# Altium schematic symbol library MCU_ST_STM32F0.SchLib: 111 symbols (part 2 of 3)
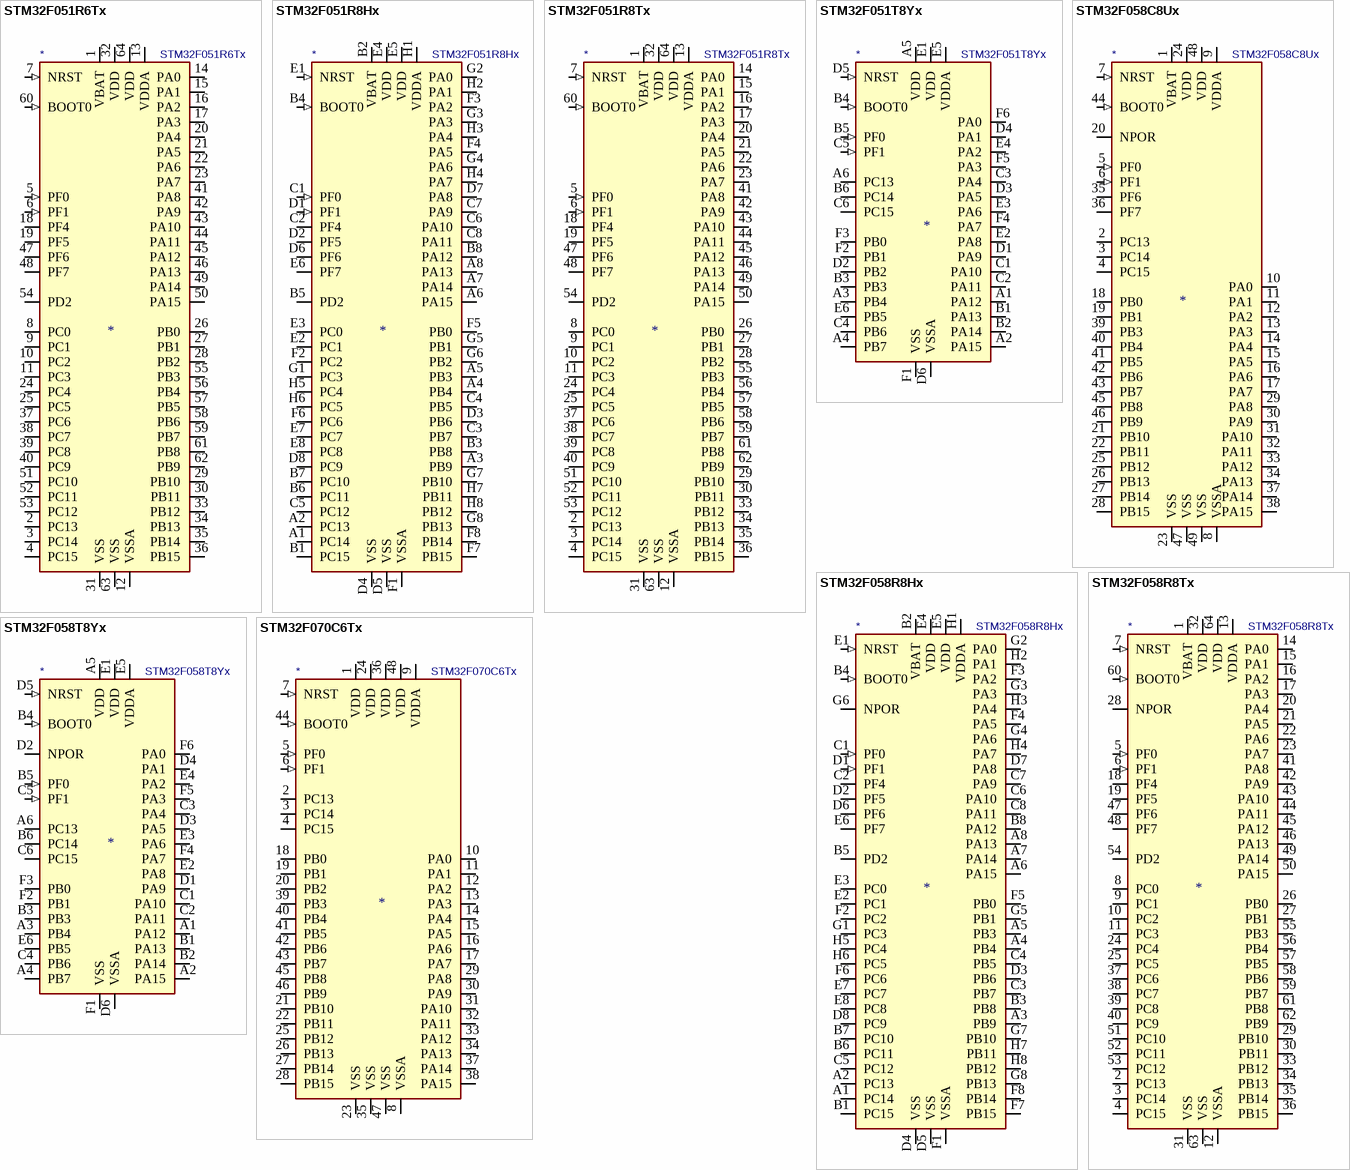
[diagram p10: symbols STM32F051R6Tx to STM32F070C6Tx]

## STM32F051R8Hx
designator *  value STM32F051R8Hx
ki_keywords: ARM Cortex-M0 STM32F0 STM32F0x1; ki_description: ARM Cortex-M0 MCU, 64KB flash, 8KB RAM, 48MHz, 2-3.6V, 55 GPIO, UFBGA-64; ki_fp_filters: UFBGA*5x5mm*Layout8x8*P0.5mm*; Footprint: Package_BGA:UFBGA-64_5x5mm_Layout8x8_P0.5mm; Supplier: http://www.st.com/st-web-ui/static/active/en/resource/technical/document/datasheet/DM00039193.pdf
footprint UFBGA-64_5x5mm_Layout8x8_P0.5mm
pins: A1 PC14 (io), A2 PC13 (io), A3 PB9 (io), A4 PB4 (io), A5 PB3 (io), A6 PA15 (io), A7 PA14 (io), A8 PA13 (io), B1 PC15 (io), B2 VBAT (power), B3 PB8 (io), B4 BOOT0 (in), B5 PD2 (io), B6 PC11 (io), B7 PC10 (io), B8 PA12 (io), C1 PF0 (in), C2 PF4 (io), C3 PB7 (io), C4 PB5 (io), C5 PC12 (io), C6 PA10 (io), C7 PA9 (io), C8 PA11 (io), D1 PF1 (in), D2 PF5 (io), D3 PB6 (io), D4 VSS (power), D5 VSS (power), D6 PF6 (io), D7 PA8 (io), D8 PC9 (io), E1 NRST (in), E2 PC1 (io), E3 PC0 (io), E4 VDD (power), E5 VDD (power), E6 PF7 (io), E7 PC7 (io), E8 PC8 (io), F1 VSSA (power), F2 PC2 (io), F3 PA2 (io), F4 PA5 (io), F5 PB0 (io), F6 PC6 (io), F7 PB15 (io), F8 PB14 (io), G1 PC3 (io), G2 PA0 (io), G3 PA3 (io), G4 PA6 (io), G5 PB1 (io), G6 PB2 (io), G7 PB10 (io), G8 PB13 (io), H1 VDDA (power), H2 PA1 (io), H3 PA4 (io), H4 PA7 (io), H5 PC4 (io), H6 PC5 (io), H7 PB11 (io), H8 PB12 (io)

## STM32F051R8Tx
designator *  value STM32F051R8Tx
ki_keywords: ARM Cortex-M0 STM32F0 STM32F0x1; ki_description: ARM Cortex-M0 MCU, 64KB flash, 8KB RAM, 48MHz, 2-3.6V, 55 GPIO, LQFP-64; ki_fp_filters: LQFP*10x10mm*P0.5mm*; Footprint: Package_QFP:LQFP-64_10x10mm_P0.5mm; Supplier: http://www.st.com/st-web-ui/static/active/en/resource/technical/document/datasheet/DM00039193.pdf
footprint LQFP-64_10x10mm_P0.5mm
pins: 1 VBAT (power), 2 PC13 (io), 3 PC14 (io), 4 PC15 (io), 5 PF0 (in), 6 PF1 (in), 7 NRST (in), 8 PC0 (io), 9 PC1 (io), 10 PC2 (io), 11 PC3 (io), 12 VSSA (power), 13 VDDA (power), 14 PA0 (io), 15 PA1 (io), 16 PA2 (io), 17 PA3 (io), 18 PF4 (io), 19 PF5 (io), 20 PA4 (io), 21 PA5 (io), 22 PA6 (io), 23 PA7 (io), 24 PC4 (io), 25 PC5 (io), 26 PB0 (io), 27 PB1 (io), 28 PB2 (io), 29 PB10 (io), 30 PB11 (io), 31 VSS (power), 32 VDD (power), 33 PB12 (io), 34 PB13 (io), 35 PB14 (io), 36 PB15 (io), 37 PC6 (io), 38 PC7 (io), 39 PC8 (io), 40 PC9 (io), 41 PA8 (io), 42 PA9 (io), 43 PA10 (io), 44 PA11 (io), 45 PA12 (io), 46 PA13 (io), 47 PF6 (io), 48 PF7 (io), 49 PA14 (io), 50 PA15 (io), 51 PC10 (io), 52 PC11 (io), 53 PC12 (io), 54 PD2 (io), 55 PB3 (io), 56 PB4 (io), 57 PB5 (io), 58 PB6 (io), 59 PB7 (io), 60 BOOT0 (in), 61 PB8 (io), 62 PB9 (io), 63 VSS (power), 64 VDD (power)

## STM32F051T8Yx
designator *  value STM32F051T8Yx
ki_keywords: ARM Cortex-M0 STM32F0 STM32F0x1; ki_description: ARM Cortex-M0 MCU, 64KB flash, 8KB RAM, 48MHz, 2-3.6V, 29 GPIO, WLCSP-36; ki_fp_filters: ST_WLCSP*Die440*; Footprint: Package_CSP:ST_WLCSP-36_Die440; Supplier: http://www.st.com/st-web-ui/static/active/en/resource/technical/document/datasheet/DM00039193.pdf
footprint ST_WLCSP-36_Die440
pins: A1 PA12 (io), A2 PA15 (io), A3 PB4 (io), A4 PB7 (io), A5 VDD (power), A6 PC13 (io), B1 PA13 (io), B2 PA14 (io), B3 PB3 (io), B4 BOOT0 (in), B5 PF0 (in), B6 PC14 (io), C1 PA10 (io), C2 PA11 (io), C3 PA4 (io), C4 PB6 (io), C5 PF1 (in), C6 PC15 (io), D1 PA9 (io), D2 PB2 (io), D3 PA5 (io), D4 PA1 (io), D5 NRST (in), D6 VSSA (power), E1 VDD (power), E2 PA8 (io), E3 PA6 (io), E4 PA2 (io), E5 VDDA (power), E6 PB5 (io), F1 VSS (power), F2 PB1 (io), F3 PB0 (io), F4 PA7 (io), F5 PA3 (io), F6 PA0 (io)

## STM32F058C8Ux
designator *  value STM32F058C8Ux
ki_keywords: ARM Cortex-M0 STM32F0 STM32F0x8; ki_description: ARM Cortex-M0 MCU, 64KB flash, 8KB RAM, 48MHz, 1.65-1.95V, 38 GPIO, UFQFPN-48; ki_fp_filters: QFN*1EP*7x7mm*P0.5mm*; Footprint: Package_DFN_QFN:QFN-48-1EP_7x7mm_P0.5mm_EP5.6x5.6mm; Supplier: http://www.st.com/st-web-ui/static/active/en/resource/technical/document/datasheet/DM00059126.pdf
footprint QFN-48-1EP_7x7mm_P0.5mm_EP5.6x5.6mm
pins: 1 VBAT (power), 2 PC13 (io), 3 PC14 (io), 4 PC15 (io), 5 PF0 (in), 6 PF1 (in), 7 NRST (in), 8 VSSA (power), 9 VDDA (power), 10 PA0 (io), 11 PA1 (io), 12 PA2 (io), 13 PA3 (io), 14 PA4 (io), 15 PA5 (io), 16 PA6 (io), 17 PA7 (io), 18 PB0 (io), 19 PB1 (io), 20 NPOR (power), 21 PB10 (io), 22 PB11 (io), 23 VSS (power), 24 VDD (power), 25 PB12 (io), 26 PB13 (io), 27 PB14 (io), 28 PB15 (io), 29 PA8 (io), 30 PA9 (io), 31 PA10 (io), 32 PA11 (io), 33 PA12 (io), 34 PA13 (io), 35 PF6 (io), 36 PF7 (io), 37 PA14 (io), 38 PA15 (io), 39 PB3 (io), 40 PB4 (io), 41 PB5 (io), 42 PB6 (io), 43 PB7 (io), 44 BOOT0 (in), 45 PB8 (io), 46 PB9 (io), 47 VSS (power), 48 VDD (power), 49 VSS (power)

## STM32F058R8Hx
designator *  value STM32F058R8Hx
ki_keywords: ARM Cortex-M0 STM32F0 STM32F0x8; ki_description: ARM Cortex-M0 MCU, 64KB flash, 8KB RAM, 48MHz, 1.65-1.95V, 54 GPIO, UFBGA-64; ki_fp_filters: UFBGA*5x5mm*Layout8x8*P0.5mm*; Footprint: Package_BGA:UFBGA-64_5x5mm_Layout8x8_P0.5mm; Supplier: http://www.st.com/st-web-ui/static/active/en/resource/technical/document/datasheet/DM00059126.pdf
footprint UFBGA-64_5x5mm_Layout8x8_P0.5mm
pins: A1 PC14 (io), A2 PC13 (io), A3 PB9 (io), A4 PB4 (io), A5 PB3 (io), A6 PA15 (io), A7 PA14 (io), A8 PA13 (io), B1 PC15 (io), B2 VBAT (power), B3 PB8 (io), B4 BOOT0 (in), B5 PD2 (io), B6 PC11 (io), B7 PC10 (io), B8 PA12 (io), C1 PF0 (in), C2 PF4 (io), C3 PB7 (io), C4 PB5 (io), C5 PC12 (io), C6 PA10 (io), C7 PA9 (io), C8 PA11 (io), D1 PF1 (in), D2 PF5 (io), D3 PB6 (io), D4 VSS (power), D5 VSS (power), D6 PF6 (io), D7 PA8 (io), D8 PC9 (io), E1 NRST (in), E2 PC1 (io), E3 PC0 (io), E4 VDD (power), E5 VDD (power), E6 PF7 (io), E7 PC7 (io), E8 PC8 (io), F1 VSSA (power), F2 PC2 (io), F3 PA2 (io), F4 PA5 (io), F5 PB0 (io), F6 PC6 (io), F7 PB15 (io), F8 PB14 (io), G1 PC3 (io), G2 PA0 (io), G3 PA3 (io), G4 PA6 (io), G5 PB1 (io), G6 NPOR (power), G7 PB10 (io), G8 PB13 (io), H1 VDDA (power), H2 PA1 (io), H3 PA4 (io), H4 PA7 (io), H5 PC4 (io), H6 PC5 (io), H7 PB11 (io), H8 PB12 (io)

## STM32F058R8Tx
designator *  value STM32F058R8Tx
ki_keywords: ARM Cortex-M0 STM32F0 STM32F0x8; ki_description: ARM Cortex-M0 MCU, 64KB flash, 8KB RAM, 48MHz, 1.65-1.95V, 54 GPIO, LQFP-64; ki_fp_filters: LQFP*10x10mm*P0.5mm*; Footprint: Package_QFP:LQFP-64_10x10mm_P0.5mm; Supplier: http://www.st.com/st-web-ui/static/active/en/resource/technical/document/datasheet/DM00059126.pdf
footprint LQFP-64_10x10mm_P0.5mm
pins: 1 VBAT (power), 2 PC13 (io), 3 PC14 (io), 4 PC15 (io), 5 PF0 (in), 6 PF1 (in), 7 NRST (in), 8 PC0 (io), 9 PC1 (io), 10 PC2 (io), 11 PC3 (io), 12 VSSA (power), 13 VDDA (power), 14 PA0 (io), 15 PA1 (io), 16 PA2 (io), 17 PA3 (io), 18 PF4 (io), 19 PF5 (io), 20 PA4 (io), 21 PA5 (io), 22 PA6 (io), 23 PA7 (io), 24 PC4 (io), 25 PC5 (io), 26 PB0 (io), 27 PB1 (io), 28 NPOR (power), 29 PB10 (io), 30 PB11 (io), 31 VSS (power), 32 VDD (power), 33 PB12 (io), 34 PB13 (io), 35 PB14 (io), 36 PB15 (io), 37 PC6 (io), 38 PC7 (io), 39 PC8 (io), 40 PC9 (io), 41 PA8 (io), 42 PA9 (io), 43 PA10 (io), 44 PA11 (io), 45 PA12 (io), 46 PA13 (io), 47 PF6 (io), 48 PF7 (io), 49 PA14 (io), 50 PA15 (io), 51 PC10 (io), 52 PC11 (io), 53 PC12 (io), 54 PD2 (io), 55 PB3 (io), 56 PB4 (io), 57 PB5 (io), 58 PB6 (io), 59 PB7 (io), 60 BOOT0 (in), 61 PB8 (io), 62 PB9 (io), 63 VSS (power), 64 VDD (power)

## STM32F058T8Yx
designator *  value STM32F058T8Yx
ki_keywords: ARM Cortex-M0 STM32F0 STM32F0x8; ki_description: ARM Cortex-M0 MCU, 64KB flash, 8KB RAM, 48MHz, 1.65-1.95V, 28 GPIO, WLCSP-36; ki_fp_filters: ST_WLCSP*Die440*; Footprint: Package_CSP:ST_WLCSP-36_Die440; Supplier: http://www.st.com/st-web-ui/static/active/en/resource/technical/document/datasheet/DM00059126.pdf
footprint ST_WLCSP-36_Die440
pins: A1 PA12 (io), A2 PA15 (io), A3 PB4 (io), A4 PB7 (io), A5 VDD (power), A6 PC13 (io), B1 PA13 (io), B2 PA14 (io), B3 PB3 (io), B4 BOOT0 (in), B5 PF0 (in), B6 PC14 (io), C1 PA10 (io), C2 PA11 (io), C3 PA4 (io), C4 PB6 (io), C5 PF1 (in), C6 PC15 (io), D1 PA9 (io), D2 NPOR (power), D3 PA5 (io), D4 PA1 (io), D5 NRST (in), D6 VSSA (power), E1 VDD (power), E2 PA8 (io), E3 PA6 (io), E4 PA2 (io), E5 VDDA (power), E6 PB5 (io), F1 VSS (power), F2 PB1 (io), F3 PB0 (io), F4 PA7 (io), F5 PA3 (io), F6 PA0 (io)

## STM32F070C6Tx
designator *  value STM32F070C6Tx
ki_keywords: ARM Cortex-M0 STM32F0 STM32F0x0 Value Line; ki_description: ARM Cortex-M0 MCU, 32KB flash, 6KB RAM, 48MHz, 2.4-3.6V, 37 GPIO, LQFP-48; ki_fp_filters: LQFP*7x7mm*P0.5mm*; Footprint: Package_QFP:LQFP-48_7x7mm_P0.5mm; Supplier: http://www.st.com/st-web-ui/static/active/en/resource/technical/document/datasheet/DM00141386.pdf
footprint LQFP-48_7x7mm_P0.5mm
pins: 1 VDD (power), 2 PC13 (io), 3 PC14 (io), 4 PC15 (io), 5 PF0 (in), 6 PF1 (in), 7 NRST (in), 8 VSSA (power), 9 VDDA (power), 10 PA0 (io), 11 PA1 (io), 12 PA2 (io), 13 PA3 (io), 14 PA4 (io), 15 PA5 (io), 16 PA6 (io), 17 PA7 (io), 18 PB0 (io), 19 PB1 (io), 20 PB2 (io), 21 PB10 (io), 22 PB11 (io), 23 VSS (power), 24 VDD (power), 25 PB12 (io), 26 PB13 (io), 27 PB14 (io), 28 PB15 (io), 29 PA8 (io), 30 PA9 (io), 31 PA10 (io), 32 PA11 (io), 33 PA12 (io), 34 PA13 (io), 35 VSS (power), 36 VDD (power), 37 PA14 (io), 38 PA15 (io), 39 PB3 (io), 40 PB4 (io), 41 PB5 (io), 42 PB6 (io), 43 PB7 (io), 44 BOOT0 (in), 45 PB8 (io), 46 PB9 (io), 47 VSS (power), 48 VDD (power)

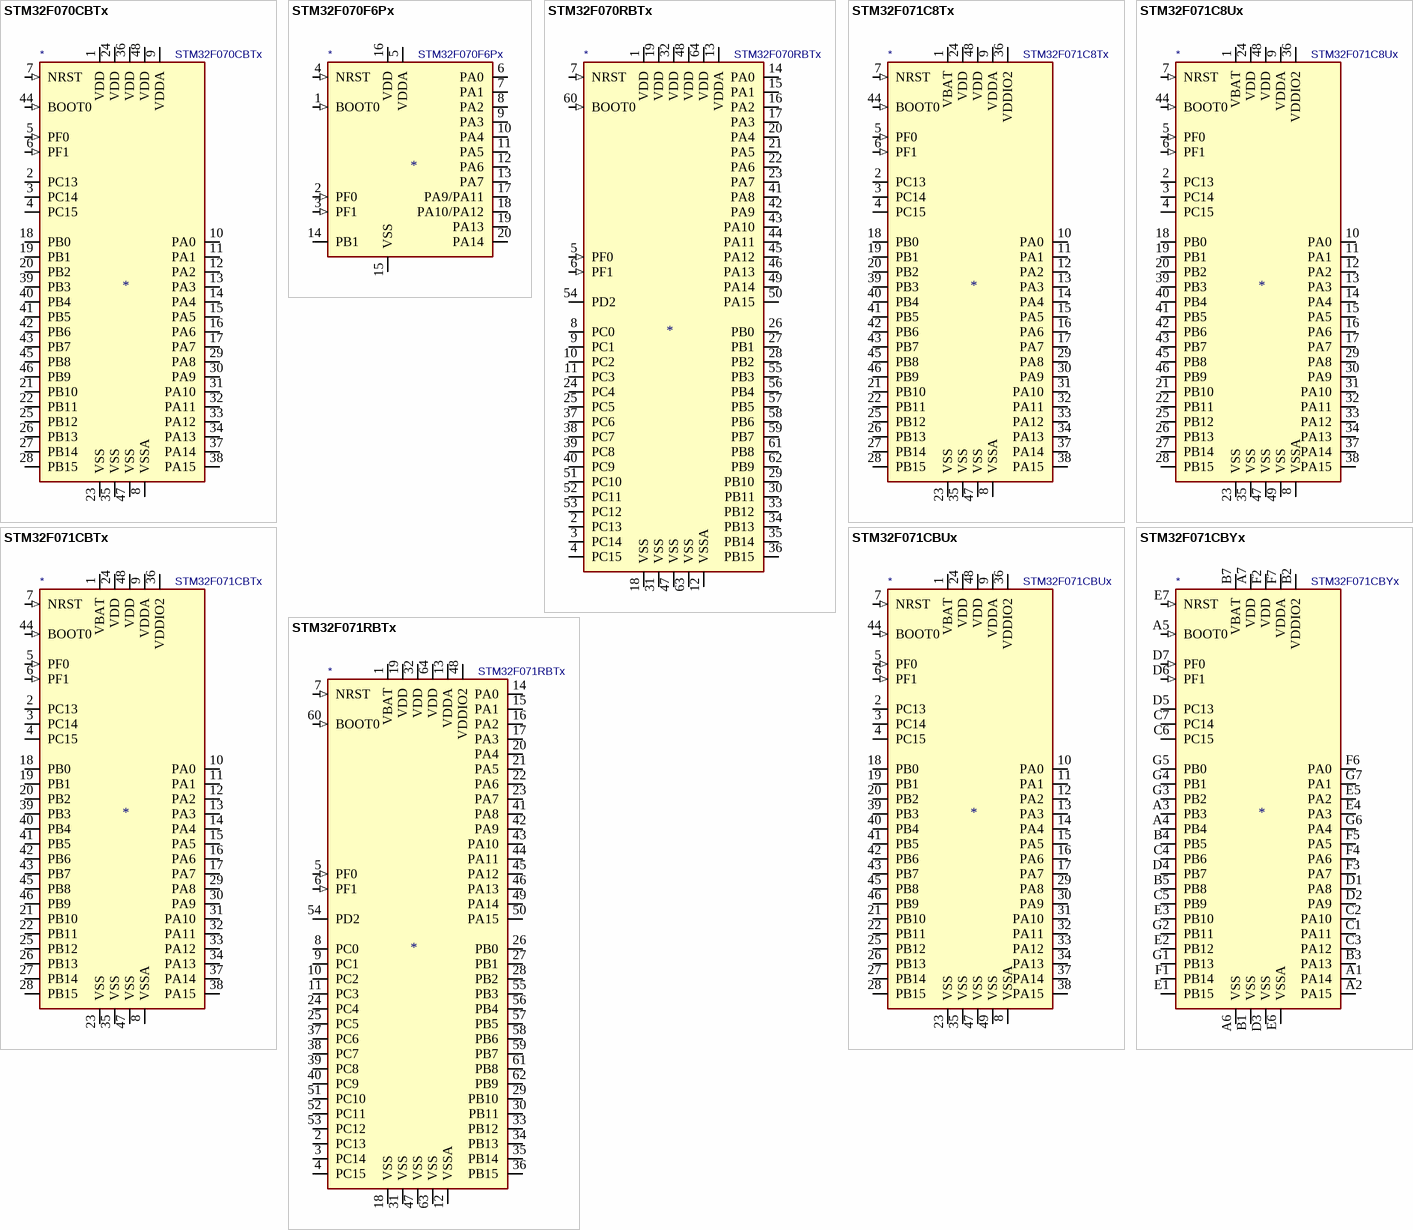
[diagram p4: symbols STM32F070CBTx to STM32F071RBTx]

## STM32F070CBTx
designator *  value STM32F070CBTx
ki_keywords: ARM Cortex-M0 STM32F0 STM32F0x0 Value Line; ki_description: ARM Cortex-M0 MCU, 128KB flash, 16KB RAM, 48MHz, 2.4-3.6V, 37 GPIO, LQFP-48; ki_fp_filters: LQFP*7x7mm*P0.5mm*; Footprint: Package_QFP:LQFP-48_7x7mm_P0.5mm; Supplier: http://www.st.com/st-web-ui/static/active/en/resource/technical/document/datasheet/DM00141386.pdf
footprint LQFP-48_7x7mm_P0.5mm
pins: 1 VDD (power), 2 PC13 (io), 3 PC14 (io), 4 PC15 (io), 5 PF0 (in), 6 PF1 (in), 7 NRST (in), 8 VSSA (power), 9 VDDA (power), 10 PA0 (io), 11 PA1 (io), 12 PA2 (io), 13 PA3 (io), 14 PA4 (io), 15 PA5 (io), 16 PA6 (io), 17 PA7 (io), 18 PB0 (io), 19 PB1 (io), 20 PB2 (io), 21 PB10 (io), 22 PB11 (io), 23 VSS (power), 24 VDD (power), 25 PB12 (io), 26 PB13 (io), 27 PB14 (io), 28 PB15 (io), 29 PA8 (io), 30 PA9 (io), 31 PA10 (io), 32 PA11 (io), 33 PA12 (io), 34 PA13 (io), 35 VSS (power), 36 VDD (power), 37 PA14 (io), 38 PA15 (io), 39 PB3 (io), 40 PB4 (io), 41 PB5 (io), 42 PB6 (io), 43 PB7 (io), 44 BOOT0 (in), 45 PB8 (io), 46 PB9 (io), 47 VSS (power), 48 VDD (power)

## STM32F070F6Px
designator *  value STM32F070F6Px
ki_keywords: ARM Cortex-M0 STM32F0 STM32F0x0 Value Line; ki_description: ARM Cortex-M0 MCU, 32KB flash, 6KB RAM, 48MHz, 2.4-3.6V, 15 GPIO, TSSOP-20; ki_fp_filters: TSSOP*4.4x6.5mm*P0.65mm*; Footprint: Package_SO:TSSOP-20_4.4x6.5mm_P0.65mm; Supplier: http://www.st.com/st-web-ui/static/active/en/resource/technical/document/datasheet/DM00141386.pdf
footprint TSSOP-20_4.4x6.5mm_P0.65mm
pins: 1 BOOT0 (in), 2 PF0 (in), 3 PF1 (in), 4 NRST (in), 5 VDDA (power), 6 PA0 (io), 7 PA1 (io), 8 PA2 (io), 9 PA3 (io), 10 PA4 (io), 11 PA5 (io), 12 PA6 (io), 13 PA7 (io), 14 PB1 (io), 15 VSS (power), 16 VDD (power), 17 PA9/PA11 (io), 18 PA10/PA12 (io), 19 PA13 (io), 20 PA14 (io)

## STM32F070RBTx
designator *  value STM32F070RBTx
ki_keywords: ARM Cortex-M0 STM32F0 STM32F0x0 Value Line; ki_description: ARM Cortex-M0 MCU, 128KB flash, 16KB RAM, 48MHz, 2.4-3.6V, 51 GPIO, LQFP-64; ki_fp_filters: LQFP*10x10mm*P0.5mm*; Footprint: Package_QFP:LQFP-64_10x10mm_P0.5mm; Supplier: http://www.st.com/st-web-ui/static/active/en/resource/technical/document/datasheet/DM00141386.pdf
footprint LQFP-64_10x10mm_P0.5mm
pins: 1 VDD (power), 2 PC13 (io), 3 PC14 (io), 4 PC15 (io), 5 PF0 (in), 6 PF1 (in), 7 NRST (in), 8 PC0 (io), 9 PC1 (io), 10 PC2 (io), 11 PC3 (io), 12 VSSA (power), 13 VDDA (power), 14 PA0 (io), 15 PA1 (io), 16 PA2 (io), 17 PA3 (io), 18 VSS (power), 19 VDD (power), 20 PA4 (io), 21 PA5 (io), 22 PA6 (io), 23 PA7 (io), 24 PC4 (io), 25 PC5 (io), 26 PB0 (io), 27 PB1 (io), 28 PB2 (io), 29 PB10 (io), 30 PB11 (io), 31 VSS (power), 32 VDD (power), 33 PB12 (io), 34 PB13 (io), 35 PB14 (io), 36 PB15 (io), 37 PC6 (io), 38 PC7 (io), 39 PC8 (io), 40 PC9 (io), 41 PA8 (io), 42 PA9 (io), 43 PA10 (io), 44 PA11 (io), 45 PA12 (io), 46 PA13 (io), 47 VSS (power), 48 VDD (power), 49 PA14 (io), 50 PA15 (io), 51 PC10 (io), 52 PC11 (io), 53 PC12 (io), 54 PD2 (io), 55 PB3 (io), 56 PB4 (io), 57 PB5 (io), 58 PB6 (io), 59 PB7 (io), 60 BOOT0 (in), 61 PB8 (io), 62 PB9 (io), 63 VSS (power), 64 VDD (power)

## STM32F071C8Tx
designator *  value STM32F071C8Tx
ki_keywords: ARM Cortex-M0 STM32F0 STM32F0x1; ki_description: ARM Cortex-M0 MCU, 64KB flash, 16KB RAM, 48MHz, 2-3.6V, 37 GPIO, LQFP-48; ki_fp_filters: LQFP*7x7mm*P0.5mm*; Footprint: Package_QFP:LQFP-48_7x7mm_P0.5mm; Supplier: http://www.st.com/st-web-ui/static/active/en/resource/technical/document/datasheet/DM00098745.pdf
footprint LQFP-48_7x7mm_P0.5mm
pins: 1 VBAT (power), 2 PC13 (io), 3 PC14 (io), 4 PC15 (io), 5 PF0 (in), 6 PF1 (in), 7 NRST (in), 8 VSSA (power), 9 VDDA (power), 10 PA0 (io), 11 PA1 (io), 12 PA2 (io), 13 PA3 (io), 14 PA4 (io), 15 PA5 (io), 16 PA6 (io), 17 PA7 (io), 18 PB0 (io), 19 PB1 (io), 20 PB2 (io), 21 PB10 (io), 22 PB11 (io), 23 VSS (power), 24 VDD (power), 25 PB12 (io), 26 PB13 (io), 27 PB14 (io), 28 PB15 (io), 29 PA8 (io), 30 PA9 (io), 31 PA10 (io), 32 PA11 (io), 33 PA12 (io), 34 PA13 (io), 35 VSS (power), 36 VDDIO2 (power), 37 PA14 (io), 38 PA15 (io), 39 PB3 (io), 40 PB4 (io), 41 PB5 (io), 42 PB6 (io), 43 PB7 (io), 44 BOOT0 (in), 45 PB8 (io), 46 PB9 (io), 47 VSS (power), 48 VDD (power)

## STM32F071C8Ux
designator *  value STM32F071C8Ux
ki_keywords: ARM Cortex-M0 STM32F0 STM32F0x1; ki_description: ARM Cortex-M0 MCU, 64KB flash, 16KB RAM, 48MHz, 2-3.6V, 37 GPIO, UFQFPN-48; ki_fp_filters: QFN*1EP*7x7mm*P0.5mm*; Footprint: Package_DFN_QFN:QFN-48-1EP_7x7mm_P0.5mm_EP5.6x5.6mm; Supplier: http://www.st.com/st-web-ui/static/active/en/resource/technical/document/datasheet/DM00098745.pdf
footprint QFN-48-1EP_7x7mm_P0.5mm_EP5.6x5.6mm
pins: 1 VBAT (power), 2 PC13 (io), 3 PC14 (io), 4 PC15 (io), 5 PF0 (in), 6 PF1 (in), 7 NRST (in), 8 VSSA (power), 9 VDDA (power), 10 PA0 (io), 11 PA1 (io), 12 PA2 (io), 13 PA3 (io), 14 PA4 (io), 15 PA5 (io), 16 PA6 (io), 17 PA7 (io), 18 PB0 (io), 19 PB1 (io), 20 PB2 (io), 21 PB10 (io), 22 PB11 (io), 23 VSS (power), 24 VDD (power), 25 PB12 (io), 26 PB13 (io), 27 PB14 (io), 28 PB15 (io), 29 PA8 (io), 30 PA9 (io), 31 PA10 (io), 32 PA11 (io), 33 PA12 (io), 34 PA13 (io), 35 VSS (power), 36 VDDIO2 (power), 37 PA14 (io), 38 PA15 (io), 39 PB3 (io), 40 PB4 (io), 41 PB5 (io), 42 PB6 (io), 43 PB7 (io), 44 BOOT0 (in), 45 PB8 (io), 46 PB9 (io), 47 VSS (power), 48 VDD (power), 49 VSS (power)

## STM32F071CBTx
designator *  value STM32F071CBTx
ki_keywords: ARM Cortex-M0 STM32F0 STM32F0x1; ki_description: ARM Cortex-M0 MCU, 128KB flash, 16KB RAM, 48MHz, 2-3.6V, 37 GPIO, LQFP-48; ki_fp_filters: LQFP*7x7mm*P0.5mm*; Footprint: Package_QFP:LQFP-48_7x7mm_P0.5mm; Supplier: http://www.st.com/st-web-ui/static/active/en/resource/technical/document/datasheet/DM00098745.pdf
footprint LQFP-48_7x7mm_P0.5mm
pins: 1 VBAT (power), 2 PC13 (io), 3 PC14 (io), 4 PC15 (io), 5 PF0 (in), 6 PF1 (in), 7 NRST (in), 8 VSSA (power), 9 VDDA (power), 10 PA0 (io), 11 PA1 (io), 12 PA2 (io), 13 PA3 (io), 14 PA4 (io), 15 PA5 (io), 16 PA6 (io), 17 PA7 (io), 18 PB0 (io), 19 PB1 (io), 20 PB2 (io), 21 PB10 (io), 22 PB11 (io), 23 VSS (power), 24 VDD (power), 25 PB12 (io), 26 PB13 (io), 27 PB14 (io), 28 PB15 (io), 29 PA8 (io), 30 PA9 (io), 31 PA10 (io), 32 PA11 (io), 33 PA12 (io), 34 PA13 (io), 35 VSS (power), 36 VDDIO2 (power), 37 PA14 (io), 38 PA15 (io), 39 PB3 (io), 40 PB4 (io), 41 PB5 (io), 42 PB6 (io), 43 PB7 (io), 44 BOOT0 (in), 45 PB8 (io), 46 PB9 (io), 47 VSS (power), 48 VDD (power)

## STM32F071CBUx
designator *  value STM32F071CBUx
ki_keywords: ARM Cortex-M0 STM32F0 STM32F0x1; ki_description: ARM Cortex-M0 MCU, 128KB flash, 16KB RAM, 48MHz, 2-3.6V, 37 GPIO, UFQFPN-48; ki_fp_filters: QFN*1EP*7x7mm*P0.5mm*; Footprint: Package_DFN_QFN:QFN-48-1EP_7x7mm_P0.5mm_EP5.6x5.6mm; Supplier: http://www.st.com/st-web-ui/static/active/en/resource/technical/document/datasheet/DM00098745.pdf
footprint QFN-48-1EP_7x7mm_P0.5mm_EP5.6x5.6mm
pins: 1 VBAT (power), 2 PC13 (io), 3 PC14 (io), 4 PC15 (io), 5 PF0 (in), 6 PF1 (in), 7 NRST (in), 8 VSSA (power), 9 VDDA (power), 10 PA0 (io), 11 PA1 (io), 12 PA2 (io), 13 PA3 (io), 14 PA4 (io), 15 PA5 (io), 16 PA6 (io), 17 PA7 (io), 18 PB0 (io), 19 PB1 (io), 20 PB2 (io), 21 PB10 (io), 22 PB11 (io), 23 VSS (power), 24 VDD (power), 25 PB12 (io), 26 PB13 (io), 27 PB14 (io), 28 PB15 (io), 29 PA8 (io), 30 PA9 (io), 31 PA10 (io), 32 PA11 (io), 33 PA12 (io), 34 PA13 (io), 35 VSS (power), 36 VDDIO2 (power), 37 PA14 (io), 38 PA15 (io), 39 PB3 (io), 40 PB4 (io), 41 PB5 (io), 42 PB6 (io), 43 PB7 (io), 44 BOOT0 (in), 45 PB8 (io), 46 PB9 (io), 47 VSS (power), 48 VDD (power), 49 VSS (power)

## STM32F071CBYx
designator *  value STM32F071CBYx
ki_keywords: ARM Cortex-M0 STM32F0 STM32F0x1; ki_description: ARM Cortex-M0 MCU, 128KB flash, 16KB RAM, 48MHz, 2-3.6V, 37 GPIO, WLCSP-49; ki_fp_filters: ST_WLCSP*Die448*; Footprint: Package_CSP:ST_WLCSP-49_Die448; Supplier: http://www.st.com/st-web-ui/static/active/en/resource/technical/document/datasheet/DM00098745.pdf
footprint ST_WLCSP-49_Die448
pins: A1 PA14 (io), A2 PA15 (io), A3 PB3 (io), A4 PB4 (io), A5 BOOT0 (in), A6 VSS (power), A7 VDD (power), B1 VSS (power), B2 VDDIO2 (power), B3 PA13 (io), B4 PB5 (io), B5 PB8 (io), B6 NC (in) hidden, B7 VBAT (power), C1 PA11 (io), C2 PA10 (io), C3 PA12 (io), C4 PB6 (io), C5 PB9 (io), C6 PC15 (io), C7 PC14 (io), D1 PA8 (io), D2 PA9 (io), D3 VSS (power), D4 PB7 (io), D5 PC13 (io), D6 PF1 (in), D7 PF0 (in), E1 PB15 (io), E2 PB12 (io), E3 PB10 (io), E4 PA3 (io), E5 PA2 (io), E6 VSSA (power), E7 NRST (in), F1 PB14 (io), F2 VDD (power), F3 PA7 (io), F4 PA6 (io), F5 PA5 (io), F6 PA0 (io), F7 VDDA (power), G1 PB13 (io), G2 PB11 (io), G3 PB2 (io), G4 PB1 (io), G5 PB0 (io), G6 PA4 (io), G7 PA1 (io)

## STM32F071RBTx
designator *  value STM32F071RBTx
ki_keywords: ARM Cortex-M0 STM32F0 STM32F0x1; ki_description: ARM Cortex-M0 MCU, 128KB flash, 16KB RAM, 48MHz, 2-3.6V, 51 GPIO, LQFP-64; ki_fp_filters: LQFP*10x10mm*P0.5mm*; Footprint: Package_QFP:LQFP-64_10x10mm_P0.5mm; Supplier: http://www.st.com/st-web-ui/static/active/en/resource/technical/document/datasheet/DM00098745.pdf
footprint LQFP-64_10x10mm_P0.5mm
pins: 1 VBAT (power), 2 PC13 (io), 3 PC14 (io), 4 PC15 (io), 5 PF0 (in), 6 PF1 (in), 7 NRST (in), 8 PC0 (io), 9 PC1 (io), 10 PC2 (io), 11 PC3 (io), 12 VSSA (power), 13 VDDA (power), 14 PA0 (io), 15 PA1 (io), 16 PA2 (io), 17 PA3 (io), 18 VSS (power), 19 VDD (power), 20 PA4 (io), 21 PA5 (io), 22 PA6 (io), 23 PA7 (io), 24 PC4 (io), 25 PC5 (io), 26 PB0 (io), 27 PB1 (io), 28 PB2 (io), 29 PB10 (io), 30 PB11 (io), 31 VSS (power), 32 VDD (power), 33 PB12 (io), 34 PB13 (io), 35 PB14 (io), 36 PB15 (io), 37 PC6 (io), 38 PC7 (io), 39 PC8 (io), 40 PC9 (io), 41 PA8 (io), 42 PA9 (io), 43 PA10 (io), 44 PA11 (io), 45 PA12 (io), 46 PA13 (io), 47 VSS (power), 48 VDDIO2 (power), 49 PA14 (io), 50 PA15 (io), 51 PC10 (io), 52 PC11 (io), 53 PC12 (io), 54 PD2 (io), 55 PB3 (io), 56 PB4 (io), 57 PB5 (io), 58 PB6 (io), 59 PB7 (io), 60 BOOT0 (in), 61 PB8 (io), 62 PB9 (io), 63 VSS (power), 64 VDD (power)

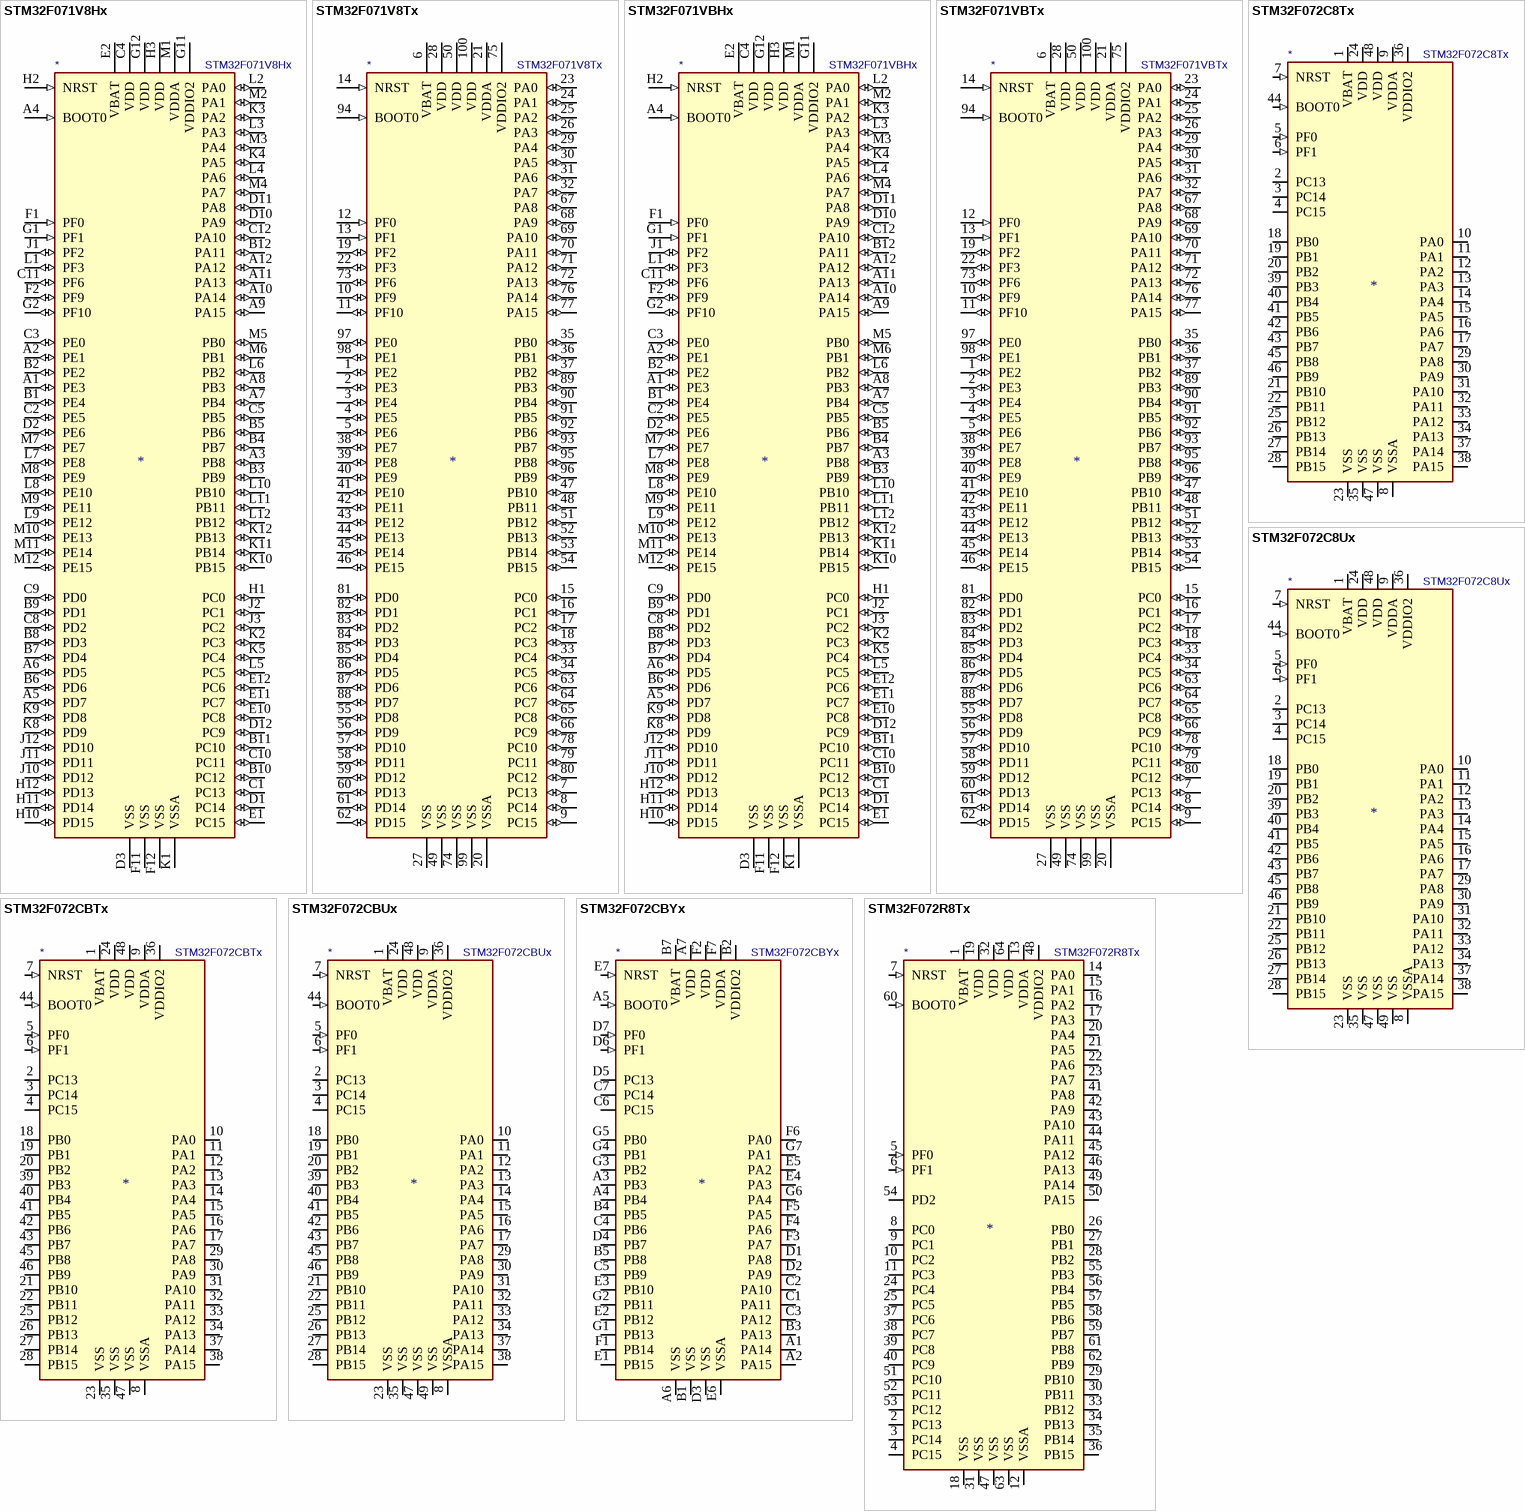
[diagram p5: symbols STM32F071V8Hx to STM32F072R8Tx]

## STM32F071V8Hx
designator *  value STM32F071V8Hx
ki_keywords: ARM Cortex-M0 STM32F0 STM32F0x1; ki_description: ARM Cortex-M0 MCU, 64KB flash, 16KB RAM, 48MHz, 2-3.6V, 87 GPIO, UFBGA-100; ki_fp_filters: UFBGA*7x7mm*Layout12x12*P0.5mm*; Footprint: Package_BGA:UFBGA-100_7x7mm_Layout12x12_P0.5mm; Supplier: http://www.st.com/st-web-ui/static/active/en/resource/technical/document/datasheet/DM00098745.pdf
footprint UFBGA-100_7x7mm_Layout12x12_P0.5mm
pins: A1 PE3 (io), A2 PE1 (io), A3 PB8 (io), A4 BOOT0 (in), A5 PD7 (io), A6 PD5 (io), A7 PB4 (io), A8 PB3 (io), A9 PA15 (io), A10 PA14 (io), A11 PA13 (io), A12 PA12 (io), B1 PE4 (io), B2 PE2 (io), B3 PB9 (io), B4 PB7 (io), B5 PB6 (io), B6 PD6 (io), B7 PD4 (io), B8 PD3 (io), B9 PD1 (io), B10 PC12 (io), B11 PC10 (io), B12 PA11 (io), C1 PC13 (io), C2 PE5 (io), C3 PE0 (io), C4 VDD (power), C5 PB5 (io), C8 PD2 (io), C9 PD0 (io), C10 PC11 (io), C11 PF6 (io), C12 PA10 (io), D1 PC14 (io), D2 PE6 (io), D3 VSS (power), D10 PA9 (io), D11 PA8 (io), D12 PC9 (io), E1 PC15 (io), E2 VBAT (power), E3 NC (in) hidden, E10 PC8 (io), E11 PC7 (io), E12 PC6 (io), F1 PF0 (in), F2 PF9 (io), F11 VSS (power), F12 VSS (power), G1 PF1 (in), G2 PF10 (io), G11 VDDIO2 (power), G12 VDD (power), H1 PC0 (io), H2 NRST (in), H3 VDD (power), H10 PD15 (io), H11 PD14 (io), H12 PD13 (io), J1 PF2 (io), J2 PC1 (io), J3 PC2 (io), J10 PD12 (io), J11 PD11 (io), J12 PD10 (io), K1 VSSA (power), K2 PC3 (io), K3 PA2 (io), K4 PA5 (io), K5 PC4 (io), K8 PD9 (io), K9 PD8 (io), K10 PB15 (io), K11 PB14 (io), K12 PB13 (io), L1 PF3 (io), L2 PA0 (io), L3 PA3 (io), L4 PA6 (io), L5 PC5 (io), L6 PB2 (io), L7 PE8 (io), L8 PE10 (io), L9 PE12 (io), L10 PB10 (io), L11 PB11 (io), L12 PB12 (io), M1 VDDA (power), M2 PA1 (io), M3 PA4 (io), M4 PA7 (io), M5 PB0 (io), M6 PB1 (io), M7 PE7 (io), M8 PE9 (io), M9 PE11 (io), M10 PE13 (io), M11 PE14 (io), M12 PE15 (io)

## STM32F071V8Tx
designator *  value STM32F071V8Tx
ki_keywords: ARM Cortex-M0 STM32F0 STM32F0x1; ki_description: ARM Cortex-M0 MCU, 64KB flash, 16KB RAM, 48MHz, 2-3.6V, 87 GPIO, LQFP-100; ki_fp_filters: LQFP*14x14mm*P0.5mm*; Footprint: Package_QFP:LQFP-100_14x14mm_P0.5mm; Supplier: http://www.st.com/st-web-ui/static/active/en/resource/technical/document/datasheet/DM00098745.pdf
footprint LQFP-100_14x14mm_P0.5mm
pins: 1 PE2 (io), 2 PE3 (io), 3 PE4 (io), 4 PE5 (io), 5 PE6 (io), 6 VBAT (power), 7 PC13 (io), 8 PC14 (io), 9 PC15 (io), 10 PF9 (io), 11 PF10 (io), 12 PF0 (in), 13 PF1 (in), 14 NRST (in), 15 PC0 (io), 16 PC1 (io), 17 PC2 (io), 18 PC3 (io), 19 PF2 (io), 20 VSSA (power), 21 VDDA (power), 22 PF3 (io), 23 PA0 (io), 24 PA1 (io), 25 PA2 (io), 26 PA3 (io), 27 VSS (power), 28 VDD (power), 29 PA4 (io), 30 PA5 (io), 31 PA6 (io), 32 PA7 (io), 33 PC4 (io), 34 PC5 (io), 35 PB0 (io), 36 PB1 (io), 37 PB2 (io), 38 PE7 (io), 39 PE8 (io), 40 PE9 (io), 41 PE10 (io), 42 PE11 (io), 43 PE12 (io), 44 PE13 (io), 45 PE14 (io), 46 PE15 (io), 47 PB10 (io), 48 PB11 (io), 49 VSS (power), 50 VDD (power), 51 PB12 (io), 52 PB13 (io), 53 PB14 (io), 54 PB15 (io), 55 PD8 (io), 56 PD9 (io), 57 PD10 (io), 58 PD11 (io), 59 PD12 (io), 60 PD13 (io), 61 PD14 (io), 62 PD15 (io), 63 PC6 (io), 64 PC7 (io), 65 PC8 (io), 66 PC9 (io), 67 PA8 (io), 68 PA9 (io), 69 PA10 (io), 70 PA11 (io), 71 PA12 (io), 72 PA13 (io), 73 PF6 (io), 74 VSS (power), 75 VDDIO2 (power), 76 PA14 (io), 77 PA15 (io), 78 PC10 (io), 79 PC11 (io), 80 PC12 (io), 81 PD0 (io), 82 PD1 (io), 83 PD2 (io), 84 PD3 (io), 85 PD4 (io), 86 PD5 (io), 87 PD6 (io), 88 PD7 (io), 89 PB3 (io), 90 PB4 (io), 91 PB5 (io), 92 PB6 (io), 93 PB7 (io), 94 BOOT0 (in), 95 PB8 (io), 96 PB9 (io), 97 PE0 (io), 98 PE1 (io), 99 VSS (power), 100 VDD (power)

## STM32F071VBHx
designator *  value STM32F071VBHx
ki_keywords: ARM Cortex-M0 STM32F0 STM32F0x1; ki_description: ARM Cortex-M0 MCU, 128KB flash, 16KB RAM, 48MHz, 2-3.6V, 87 GPIO, UFBGA-100; ki_fp_filters: UFBGA*7x7mm*Layout12x12*P0.5mm*; Footprint: Package_BGA:UFBGA-100_7x7mm_Layout12x12_P0.5mm; Supplier: http://www.st.com/st-web-ui/static/active/en/resource/technical/document/datasheet/DM00098745.pdf
footprint UFBGA-100_7x7mm_Layout12x12_P0.5mm
pins: A1 PE3 (io), A2 PE1 (io), A3 PB8 (io), A4 BOOT0 (in), A5 PD7 (io), A6 PD5 (io), A7 PB4 (io), A8 PB3 (io), A9 PA15 (io), A10 PA14 (io), A11 PA13 (io), A12 PA12 (io), B1 PE4 (io), B2 PE2 (io), B3 PB9 (io), B4 PB7 (io), B5 PB6 (io), B6 PD6 (io), B7 PD4 (io), B8 PD3 (io), B9 PD1 (io), B10 PC12 (io), B11 PC10 (io), B12 PA11 (io), C1 PC13 (io), C2 PE5 (io), C3 PE0 (io), C4 VDD (power), C5 PB5 (io), C8 PD2 (io), C9 PD0 (io), C10 PC11 (io), C11 PF6 (io), C12 PA10 (io), D1 PC14 (io), D2 PE6 (io), D3 VSS (power), D10 PA9 (io), D11 PA8 (io), D12 PC9 (io), E1 PC15 (io), E2 VBAT (power), E3 NC (in) hidden, E10 PC8 (io), E11 PC7 (io), E12 PC6 (io), F1 PF0 (in), F2 PF9 (io), F11 VSS (power), F12 VSS (power), G1 PF1 (in), G2 PF10 (io), G11 VDDIO2 (power), G12 VDD (power), H1 PC0 (io), H2 NRST (in), H3 VDD (power), H10 PD15 (io), H11 PD14 (io), H12 PD13 (io), J1 PF2 (io), J2 PC1 (io), J3 PC2 (io), J10 PD12 (io), J11 PD11 (io), J12 PD10 (io), K1 VSSA (power), K2 PC3 (io), K3 PA2 (io), K4 PA5 (io), K5 PC4 (io), K8 PD9 (io), K9 PD8 (io), K10 PB15 (io), K11 PB14 (io), K12 PB13 (io), L1 PF3 (io), L2 PA0 (io), L3 PA3 (io), L4 PA6 (io), L5 PC5 (io), L6 PB2 (io), L7 PE8 (io), L8 PE10 (io), L9 PE12 (io), L10 PB10 (io), L11 PB11 (io), L12 PB12 (io), M1 VDDA (power), M2 PA1 (io), M3 PA4 (io), M4 PA7 (io), M5 PB0 (io), M6 PB1 (io), M7 PE7 (io), M8 PE9 (io), M9 PE11 (io), M10 PE13 (io), M11 PE14 (io), M12 PE15 (io)

## STM32F071VBTx
designator *  value STM32F071VBTx
ki_keywords: ARM Cortex-M0 STM32F0 STM32F0x1; ki_description: ARM Cortex-M0 MCU, 128KB flash, 16KB RAM, 48MHz, 2-3.6V, 87 GPIO, LQFP-100; ki_fp_filters: LQFP*14x14mm*P0.5mm*; Footprint: Package_QFP:LQFP-100_14x14mm_P0.5mm; Supplier: http://www.st.com/st-web-ui/static/active/en/resource/technical/document/datasheet/DM00098745.pdf
footprint LQFP-100_14x14mm_P0.5mm
pins: 1 PE2 (io), 2 PE3 (io), 3 PE4 (io), 4 PE5 (io), 5 PE6 (io), 6 VBAT (power), 7 PC13 (io), 8 PC14 (io), 9 PC15 (io), 10 PF9 (io), 11 PF10 (io), 12 PF0 (in), 13 PF1 (in), 14 NRST (in), 15 PC0 (io), 16 PC1 (io), 17 PC2 (io), 18 PC3 (io), 19 PF2 (io), 20 VSSA (power), 21 VDDA (power), 22 PF3 (io), 23 PA0 (io), 24 PA1 (io), 25 PA2 (io), 26 PA3 (io), 27 VSS (power), 28 VDD (power), 29 PA4 (io), 30 PA5 (io), 31 PA6 (io), 32 PA7 (io), 33 PC4 (io), 34 PC5 (io), 35 PB0 (io), 36 PB1 (io), 37 PB2 (io), 38 PE7 (io), 39 PE8 (io), 40 PE9 (io), 41 PE10 (io), 42 PE11 (io), 43 PE12 (io), 44 PE13 (io), 45 PE14 (io), 46 PE15 (io), 47 PB10 (io), 48 PB11 (io), 49 VSS (power), 50 VDD (power), 51 PB12 (io), 52 PB13 (io), 53 PB14 (io), 54 PB15 (io), 55 PD8 (io), 56 PD9 (io), 57 PD10 (io), 58 PD11 (io), 59 PD12 (io), 60 PD13 (io), 61 PD14 (io), 62 PD15 (io), 63 PC6 (io), 64 PC7 (io), 65 PC8 (io), 66 PC9 (io), 67 PA8 (io), 68 PA9 (io), 69 PA10 (io), 70 PA11 (io), 71 PA12 (io), 72 PA13 (io), 73 PF6 (io), 74 VSS (power), 75 VDDIO2 (power), 76 PA14 (io), 77 PA15 (io), 78 PC10 (io), 79 PC11 (io), 80 PC12 (io), 81 PD0 (io), 82 PD1 (io), 83 PD2 (io), 84 PD3 (io), 85 PD4 (io), 86 PD5 (io), 87 PD6 (io), 88 PD7 (io), 89 PB3 (io), 90 PB4 (io), 91 PB5 (io), 92 PB6 (io), 93 PB7 (io), 94 BOOT0 (in), 95 PB8 (io), 96 PB9 (io), 97 PE0 (io), 98 PE1 (io), 99 VSS (power), 100 VDD (power)

## STM32F072C8Tx
designator *  value STM32F072C8Tx
ki_keywords: ARM Cortex-M0 STM32F0 STM32F0x2; ki_description: ARM Cortex-M0 MCU, 64KB flash, 16KB RAM, 48MHz, 2-3.6V, 37 GPIO, LQFP-48; ki_fp_filters: LQFP*7x7mm*P0.5mm*; Footprint: Package_QFP:LQFP-48_7x7mm_P0.5mm; Supplier: http://www.st.com/st-web-ui/static/active/en/resource/technical/document/datasheet/DM00090510.pdf
footprint LQFP-48_7x7mm_P0.5mm
pins: 1 VBAT (power), 2 PC13 (io), 3 PC14 (io), 4 PC15 (io), 5 PF0 (in), 6 PF1 (in), 7 NRST (in), 8 VSSA (power), 9 VDDA (power), 10 PA0 (io), 11 PA1 (io), 12 PA2 (io), 13 PA3 (io), 14 PA4 (io), 15 PA5 (io), 16 PA6 (io), 17 PA7 (io), 18 PB0 (io), 19 PB1 (io), 20 PB2 (io), 21 PB10 (io), 22 PB11 (io), 23 VSS (power), 24 VDD (power), 25 PB12 (io), 26 PB13 (io), 27 PB14 (io), 28 PB15 (io), 29 PA8 (io), 30 PA9 (io), 31 PA10 (io), 32 PA11 (io), 33 PA12 (io), 34 PA13 (io), 35 VSS (power), 36 VDDIO2 (power), 37 PA14 (io), 38 PA15 (io), 39 PB3 (io), 40 PB4 (io), 41 PB5 (io), 42 PB6 (io), 43 PB7 (io), 44 BOOT0 (in), 45 PB8 (io), 46 PB9 (io), 47 VSS (power), 48 VDD (power)

## STM32F072C8Ux
designator *  value STM32F072C8Ux
ki_keywords: ARM Cortex-M0 STM32F0 STM32F0x2; ki_description: ARM Cortex-M0 MCU, 64KB flash, 16KB RAM, 48MHz, 2-3.6V, 37 GPIO, UFQFPN-48; ki_fp_filters: QFN*1EP*7x7mm*P0.5mm*; Footprint: Package_DFN_QFN:QFN-48-1EP_7x7mm_P0.5mm_EP5.6x5.6mm; Supplier: http://www.st.com/st-web-ui/static/active/en/resource/technical/document/datasheet/DM00090510.pdf
footprint QFN-48-1EP_7x7mm_P0.5mm_EP5.6x5.6mm
pins: 1 VBAT (power), 2 PC13 (io), 3 PC14 (io), 4 PC15 (io), 5 PF0 (in), 6 PF1 (in), 7 NRST (in), 8 VSSA (power), 9 VDDA (power), 10 PA0 (io), 11 PA1 (io), 12 PA2 (io), 13 PA3 (io), 14 PA4 (io), 15 PA5 (io), 16 PA6 (io), 17 PA7 (io), 18 PB0 (io), 19 PB1 (io), 20 PB2 (io), 21 PB10 (io), 22 PB11 (io), 23 VSS (power), 24 VDD (power), 25 PB12 (io), 26 PB13 (io), 27 PB14 (io), 28 PB15 (io), 29 PA8 (io), 30 PA9 (io), 31 PA10 (io), 32 PA11 (io), 33 PA12 (io), 34 PA13 (io), 35 VSS (power), 36 VDDIO2 (power), 37 PA14 (io), 38 PA15 (io), 39 PB3 (io), 40 PB4 (io), 41 PB5 (io), 42 PB6 (io), 43 PB7 (io), 44 BOOT0 (in), 45 PB8 (io), 46 PB9 (io), 47 VSS (power), 48 VDD (power), 49 VSS (power)

## STM32F072CBTx
designator *  value STM32F072CBTx
ki_keywords: ARM Cortex-M0 STM32F0 STM32F0x2; ki_description: ARM Cortex-M0 MCU, 128KB flash, 16KB RAM, 48MHz, 2-3.6V, 37 GPIO, LQFP-48; ki_fp_filters: LQFP*7x7mm*P0.5mm*; Footprint: Package_QFP:LQFP-48_7x7mm_P0.5mm; Supplier: http://www.st.com/st-web-ui/static/active/en/resource/technical/document/datasheet/DM00090510.pdf
footprint LQFP-48_7x7mm_P0.5mm
pins: 1 VBAT (power), 2 PC13 (io), 3 PC14 (io), 4 PC15 (io), 5 PF0 (in), 6 PF1 (in), 7 NRST (in), 8 VSSA (power), 9 VDDA (power), 10 PA0 (io), 11 PA1 (io), 12 PA2 (io), 13 PA3 (io), 14 PA4 (io), 15 PA5 (io), 16 PA6 (io), 17 PA7 (io), 18 PB0 (io), 19 PB1 (io), 20 PB2 (io), 21 PB10 (io), 22 PB11 (io), 23 VSS (power), 24 VDD (power), 25 PB12 (io), 26 PB13 (io), 27 PB14 (io), 28 PB15 (io), 29 PA8 (io), 30 PA9 (io), 31 PA10 (io), 32 PA11 (io), 33 PA12 (io), 34 PA13 (io), 35 VSS (power), 36 VDDIO2 (power), 37 PA14 (io), 38 PA15 (io), 39 PB3 (io), 40 PB4 (io), 41 PB5 (io), 42 PB6 (io), 43 PB7 (io), 44 BOOT0 (in), 45 PB8 (io), 46 PB9 (io), 47 VSS (power), 48 VDD (power)

## STM32F072CBUx
designator *  value STM32F072CBUx
ki_keywords: ARM Cortex-M0 STM32F0 STM32F0x2; ki_description: ARM Cortex-M0 MCU, 128KB flash, 16KB RAM, 48MHz, 2-3.6V, 37 GPIO, UFQFPN-48; ki_fp_filters: QFN*1EP*7x7mm*P0.5mm*; Footprint: Package_DFN_QFN:QFN-48-1EP_7x7mm_P0.5mm_EP5.6x5.6mm; Supplier: http://www.st.com/st-web-ui/static/active/en/resource/technical/document/datasheet/DM00090510.pdf
footprint QFN-48-1EP_7x7mm_P0.5mm_EP5.6x5.6mm
pins: 1 VBAT (power), 2 PC13 (io), 3 PC14 (io), 4 PC15 (io), 5 PF0 (in), 6 PF1 (in), 7 NRST (in), 8 VSSA (power), 9 VDDA (power), 10 PA0 (io), 11 PA1 (io), 12 PA2 (io), 13 PA3 (io), 14 PA4 (io), 15 PA5 (io), 16 PA6 (io), 17 PA7 (io), 18 PB0 (io), 19 PB1 (io), 20 PB2 (io), 21 PB10 (io), 22 PB11 (io), 23 VSS (power), 24 VDD (power), 25 PB12 (io), 26 PB13 (io), 27 PB14 (io), 28 PB15 (io), 29 PA8 (io), 30 PA9 (io), 31 PA10 (io), 32 PA11 (io), 33 PA12 (io), 34 PA13 (io), 35 VSS (power), 36 VDDIO2 (power), 37 PA14 (io), 38 PA15 (io), 39 PB3 (io), 40 PB4 (io), 41 PB5 (io), 42 PB6 (io), 43 PB7 (io), 44 BOOT0 (in), 45 PB8 (io), 46 PB9 (io), 47 VSS (power), 48 VDD (power), 49 VSS (power)

## STM32F072CBYx
designator *  value STM32F072CBYx
ki_keywords: ARM Cortex-M0 STM32F0 STM32F0x2; ki_description: ARM Cortex-M0 MCU, 128KB flash, 16KB RAM, 48MHz, 2-3.6V, 37 GPIO, WLCSP-49; ki_fp_filters: ST_WLCSP*Die448*; Footprint: Package_CSP:ST_WLCSP-49_Die448; Supplier: http://www.st.com/st-web-ui/static/active/en/resource/technical/document/datasheet/DM00090510.pdf
footprint ST_WLCSP-49_Die448
pins: A1 PA14 (io), A2 PA15 (io), A3 PB3 (io), A4 PB4 (io), A5 BOOT0 (in), A6 VSS (power), A7 VDD (power), B1 VSS (power), B2 VDDIO2 (power), B3 PA13 (io), B4 PB5 (io), B5 PB8 (io), B6 NC (in) hidden, B7 VBAT (power), C1 PA11 (io), C2 PA10 (io), C3 PA12 (io), C4 PB6 (io), C5 PB9 (io), C6 PC15 (io), C7 PC14 (io), D1 PA8 (io), D2 PA9 (io), D3 VSS (power), D4 PB7 (io), D5 PC13 (io), D6 PF1 (in), D7 PF0 (in), E1 PB15 (io), E2 PB12 (io), E3 PB10 (io), E4 PA3 (io), E5 PA2 (io), E6 VSSA (power), E7 NRST (in), F1 PB14 (io), F2 VDD (power), F3 PA7 (io), F4 PA6 (io), F5 PA5 (io), F6 PA0 (io), F7 VDDA (power), G1 PB13 (io), G2 PB11 (io), G3 PB2 (io), G4 PB1 (io), G5 PB0 (io), G6 PA4 (io), G7 PA1 (io)

## STM32F072R8Tx
designator *  value STM32F072R8Tx
ki_keywords: ARM Cortex-M0 STM32F0 STM32F0x2; ki_description: ARM Cortex-M0 MCU, 64KB flash, 16KB RAM, 48MHz, 2-3.6V, 51 GPIO, LQFP-64; ki_fp_filters: LQFP*10x10mm*P0.5mm*; Footprint: Package_QFP:LQFP-64_10x10mm_P0.5mm; Supplier: http://www.st.com/st-web-ui/static/active/en/resource/technical/document/datasheet/DM00090510.pdf
footprint LQFP-64_10x10mm_P0.5mm
pins: 1 VBAT (power), 2 PC13 (io), 3 PC14 (io), 4 PC15 (io), 5 PF0 (in), 6 PF1 (in), 7 NRST (in), 8 PC0 (io), 9 PC1 (io), 10 PC2 (io), 11 PC3 (io), 12 VSSA (power), 13 VDDA (power), 14 PA0 (io), 15 PA1 (io), 16 PA2 (io), 17 PA3 (io), 18 VSS (power), 19 VDD (power), 20 PA4 (io), 21 PA5 (io), 22 PA6 (io), 23 PA7 (io), 24 PC4 (io), 25 PC5 (io), 26 PB0 (io), 27 PB1 (io), 28 PB2 (io), 29 PB10 (io), 30 PB11 (io), 31 VSS (power), 32 VDD (power), 33 PB12 (io), 34 PB13 (io), 35 PB14 (io), 36 PB15 (io), 37 PC6 (io), 38 PC7 (io), 39 PC8 (io), 40 PC9 (io), 41 PA8 (io), 42 PA9 (io), 43 PA10 (io), 44 PA11 (io), 45 PA12 (io), 46 PA13 (io), 47 VSS (power), 48 VDDIO2 (power), 49 PA14 (io), 50 PA15 (io), 51 PC10 (io), 52 PC11 (io), 53 PC12 (io), 54 PD2 (io), 55 PB3 (io), 56 PB4 (io), 57 PB5 (io), 58 PB6 (io), 59 PB7 (io), 60 BOOT0 (in), 61 PB8 (io), 62 PB9 (io), 63 VSS (power), 64 VDD (power)

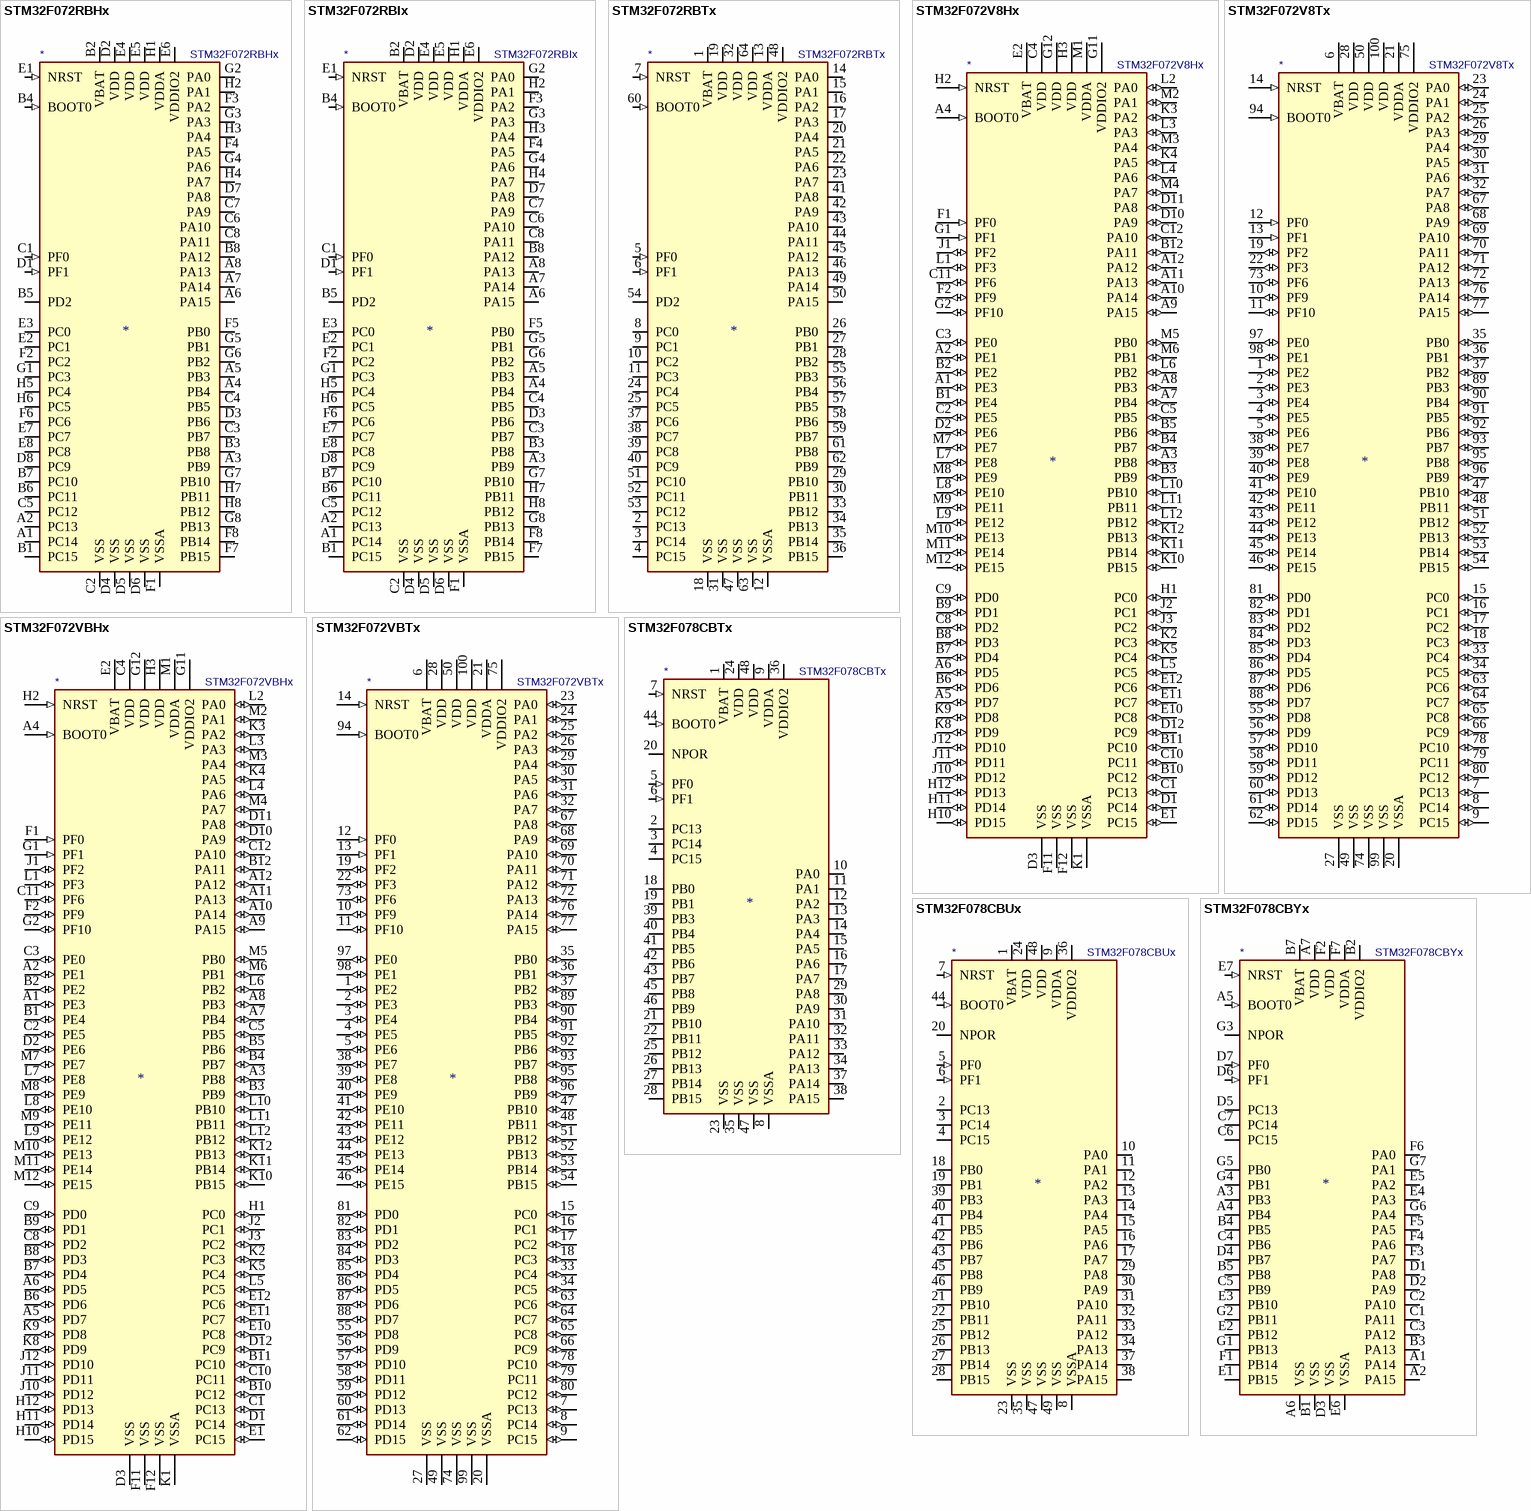
[diagram p6: symbols STM32F072RBHx to STM32F078CBYx]

## STM32F072RBHx
designator *  value STM32F072RBHx
ki_keywords: ARM Cortex-M0 STM32F0 STM32F0x2; ki_description: ARM Cortex-M0 MCU, 128KB flash, 16KB RAM, 48MHz, 2-3.6V, 51 GPIO, UFBGA-64; ki_fp_filters: UFBGA*5x5mm*Layout8x8*P0.5mm*; Footprint: Package_BGA:UFBGA-64_5x5mm_Layout8x8_P0.5mm; Supplier: http://www.st.com/st-web-ui/static/active/en/resource/technical/document/datasheet/DM00090510.pdf
footprint UFBGA-64_5x5mm_Layout8x8_P0.5mm
pins: A1 PC14 (io), A2 PC13 (io), A3 PB9 (io), A4 PB4 (io), A5 PB3 (io), A6 PA15 (io), A7 PA14 (io), A8 PA13 (io), B1 PC15 (io), B2 VBAT (power), B3 PB8 (io), B4 BOOT0 (in), B5 PD2 (io), B6 PC11 (io), B7 PC10 (io), B8 PA12 (io), C1 PF0 (in), C2 VSS (power), C3 PB7 (io), C4 PB5 (io), C5 PC12 (io), C6 PA10 (io), C7 PA9 (io), C8 PA11 (io), D1 PF1 (in), D2 VDD (power), D3 PB6 (io), D4 VSS (power), D5 VSS (power), D6 VSS (power), D7 PA8 (io), D8 PC9 (io), E1 NRST (in), E2 PC1 (io), E3 PC0 (io), E4 VDD (power), E5 VDD (power), E6 VDDIO2 (power), E7 PC7 (io), E8 PC8 (io), F1 VSSA (power), F2 PC2 (io), F3 PA2 (io), F4 PA5 (io), F5 PB0 (io), F6 PC6 (io), F7 PB15 (io), F8 PB14 (io), G1 PC3 (io), G2 PA0 (io), G3 PA3 (io), G4 PA6 (io), G5 PB1 (io), G6 PB2 (io), G7 PB10 (io), G8 PB13 (io), H1 VDDA (power), H2 PA1 (io), H3 PA4 (io), H4 PA7 (io), H5 PC4 (io), H6 PC5 (io), H7 PB11 (io), H8 PB12 (io)

## STM32F072RBIx
designator *  value STM32F072RBIx
ki_keywords: ARM Cortex-M0 STM32F0 STM32F0x2; ki_description: ARM Cortex-M0 MCU, 128KB flash, 16KB RAM, 48MHz, 2-3.6V, 51 GPIO, UFBGA-64; ki_fp_filters: UFBGA*5x5mm*Layout8x8*P0.5mm*; Footprint: Package_BGA:UFBGA-64_5x5mm_Layout8x8_P0.5mm; Supplier: http://www.st.com/st-web-ui/static/active/en/resource/technical/document/datasheet/DM00090510.pdf
footprint UFBGA-64_5x5mm_Layout8x8_P0.5mm
pins: A1 PC14 (io), A2 PC13 (io), A3 PB9 (io), A4 PB4 (io), A5 PB3 (io), A6 PA15 (io), A7 PA14 (io), A8 PA13 (io), B1 PC15 (io), B2 VBAT (power), B3 PB8 (io), B4 BOOT0 (in), B5 PD2 (io), B6 PC11 (io), B7 PC10 (io), B8 PA12 (io), C1 PF0 (in), C2 VSS (power), C3 PB7 (io), C4 PB5 (io), C5 PC12 (io), C6 PA10 (io), C7 PA9 (io), C8 PA11 (io), D1 PF1 (in), D2 VDD (power), D3 PB6 (io), D4 VSS (power), D5 VSS (power), D6 VSS (power), D7 PA8 (io), D8 PC9 (io), E1 NRST (in), E2 PC1 (io), E3 PC0 (io), E4 VDD (power), E5 VDD (power), E6 VDDIO2 (power), E7 PC7 (io), E8 PC8 (io), F1 VSSA (power), F2 PC2 (io), F3 PA2 (io), F4 PA5 (io), F5 PB0 (io), F6 PC6 (io), F7 PB15 (io), F8 PB14 (io), G1 PC3 (io), G2 PA0 (io), G3 PA3 (io), G4 PA6 (io), G5 PB1 (io), G6 PB2 (io), G7 PB10 (io), G8 PB13 (io), H1 VDDA (power), H2 PA1 (io), H3 PA4 (io), H4 PA7 (io), H5 PC4 (io), H6 PC5 (io), H7 PB11 (io), H8 PB12 (io)

## STM32F072RBTx
designator *  value STM32F072RBTx
ki_keywords: ARM Cortex-M0 STM32F0 STM32F0x2; ki_description: ARM Cortex-M0 MCU, 128KB flash, 16KB RAM, 48MHz, 2-3.6V, 51 GPIO, LQFP-64; ki_fp_filters: LQFP*10x10mm*P0.5mm*; Footprint: Package_QFP:LQFP-64_10x10mm_P0.5mm; Supplier: http://www.st.com/st-web-ui/static/active/en/resource/technical/document/datasheet/DM00090510.pdf
footprint LQFP-64_10x10mm_P0.5mm
pins: 1 VBAT (power), 2 PC13 (io), 3 PC14 (io), 4 PC15 (io), 5 PF0 (in), 6 PF1 (in), 7 NRST (in), 8 PC0 (io), 9 PC1 (io), 10 PC2 (io), 11 PC3 (io), 12 VSSA (power), 13 VDDA (power), 14 PA0 (io), 15 PA1 (io), 16 PA2 (io), 17 PA3 (io), 18 VSS (power), 19 VDD (power), 20 PA4 (io), 21 PA5 (io), 22 PA6 (io), 23 PA7 (io), 24 PC4 (io), 25 PC5 (io), 26 PB0 (io), 27 PB1 (io), 28 PB2 (io), 29 PB10 (io), 30 PB11 (io), 31 VSS (power), 32 VDD (power), 33 PB12 (io), 34 PB13 (io), 35 PB14 (io), 36 PB15 (io), 37 PC6 (io), 38 PC7 (io), 39 PC8 (io), 40 PC9 (io), 41 PA8 (io), 42 PA9 (io), 43 PA10 (io), 44 PA11 (io), 45 PA12 (io), 46 PA13 (io), 47 VSS (power), 48 VDDIO2 (power), 49 PA14 (io), 50 PA15 (io), 51 PC10 (io), 52 PC11 (io), 53 PC12 (io), 54 PD2 (io), 55 PB3 (io), 56 PB4 (io), 57 PB5 (io), 58 PB6 (io), 59 PB7 (io), 60 BOOT0 (in), 61 PB8 (io), 62 PB9 (io), 63 VSS (power), 64 VDD (power)

## STM32F072V8Hx
designator *  value STM32F072V8Hx
ki_keywords: ARM Cortex-M0 STM32F0 STM32F0x2; ki_description: ARM Cortex-M0 MCU, 64KB flash, 16KB RAM, 48MHz, 2-3.6V, 87 GPIO, UFBGA-100; ki_fp_filters: UFBGA*7x7mm*Layout12x12*P0.5mm*; Footprint: Package_BGA:UFBGA-100_7x7mm_Layout12x12_P0.5mm; Supplier: http://www.st.com/st-web-ui/static/active/en/resource/technical/document/datasheet/DM00090510.pdf
footprint UFBGA-100_7x7mm_Layout12x12_P0.5mm
pins: A1 PE3 (io), A2 PE1 (io), A3 PB8 (io), A4 BOOT0 (in), A5 PD7 (io), A6 PD5 (io), A7 PB4 (io), A8 PB3 (io), A9 PA15 (io), A10 PA14 (io), A11 PA13 (io), A12 PA12 (io), B1 PE4 (io), B2 PE2 (io), B3 PB9 (io), B4 PB7 (io), B5 PB6 (io), B6 PD6 (io), B7 PD4 (io), B8 PD3 (io), B9 PD1 (io), B10 PC12 (io), B11 PC10 (io), B12 PA11 (io), C1 PC13 (io), C2 PE5 (io), C3 PE0 (io), C4 VDD (power), C5 PB5 (io), C8 PD2 (io), C9 PD0 (io), C10 PC11 (io), C11 PF6 (io), C12 PA10 (io), D1 PC14 (io), D2 PE6 (io), D3 VSS (power), D10 PA9 (io), D11 PA8 (io), D12 PC9 (io), E1 PC15 (io), E2 VBAT (power), E3 NC (in) hidden, E10 PC8 (io), E11 PC7 (io), E12 PC6 (io), F1 PF0 (in), F2 PF9 (io), F11 VSS (power), F12 VSS (power), G1 PF1 (in), G2 PF10 (io), G11 VDDIO2 (power), G12 VDD (power), H1 PC0 (io), H2 NRST (in), H3 VDD (power), H10 PD15 (io), H11 PD14 (io), H12 PD13 (io), J1 PF2 (io), J2 PC1 (io), J3 PC2 (io), J10 PD12 (io), J11 PD11 (io), J12 PD10 (io), K1 VSSA (power), K2 PC3 (io), K3 PA2 (io), K4 PA5 (io), K5 PC4 (io), K8 PD9 (io), K9 PD8 (io), K10 PB15 (io), K11 PB14 (io), K12 PB13 (io), L1 PF3 (io), L2 PA0 (io), L3 PA3 (io), L4 PA6 (io), L5 PC5 (io), L6 PB2 (io), L7 PE8 (io), L8 PE10 (io), L9 PE12 (io), L10 PB10 (io), L11 PB11 (io), L12 PB12 (io), M1 VDDA (power), M2 PA1 (io), M3 PA4 (io), M4 PA7 (io), M5 PB0 (io), M6 PB1 (io), M7 PE7 (io), M8 PE9 (io), M9 PE11 (io), M10 PE13 (io), M11 PE14 (io), M12 PE15 (io)

## STM32F072V8Tx
designator *  value STM32F072V8Tx
ki_keywords: ARM Cortex-M0 STM32F0 STM32F0x2; ki_description: ARM Cortex-M0 MCU, 64KB flash, 16KB RAM, 48MHz, 2-3.6V, 87 GPIO, LQFP-100; ki_fp_filters: LQFP*14x14mm*P0.5mm*; Footprint: Package_QFP:LQFP-100_14x14mm_P0.5mm; Supplier: http://www.st.com/st-web-ui/static/active/en/resource/technical/document/datasheet/DM00090510.pdf
footprint LQFP-100_14x14mm_P0.5mm
pins: 1 PE2 (io), 2 PE3 (io), 3 PE4 (io), 4 PE5 (io), 5 PE6 (io), 6 VBAT (power), 7 PC13 (io), 8 PC14 (io), 9 PC15 (io), 10 PF9 (io), 11 PF10 (io), 12 PF0 (in), 13 PF1 (in), 14 NRST (in), 15 PC0 (io), 16 PC1 (io), 17 PC2 (io), 18 PC3 (io), 19 PF2 (io), 20 VSSA (power), 21 VDDA (power), 22 PF3 (io), 23 PA0 (io), 24 PA1 (io), 25 PA2 (io), 26 PA3 (io), 27 VSS (power), 28 VDD (power), 29 PA4 (io), 30 PA5 (io), 31 PA6 (io), 32 PA7 (io), 33 PC4 (io), 34 PC5 (io), 35 PB0 (io), 36 PB1 (io), 37 PB2 (io), 38 PE7 (io), 39 PE8 (io), 40 PE9 (io), 41 PE10 (io), 42 PE11 (io), 43 PE12 (io), 44 PE13 (io), 45 PE14 (io), 46 PE15 (io), 47 PB10 (io), 48 PB11 (io), 49 VSS (power), 50 VDD (power), 51 PB12 (io), 52 PB13 (io), 53 PB14 (io), 54 PB15 (io), 55 PD8 (io), 56 PD9 (io), 57 PD10 (io), 58 PD11 (io), 59 PD12 (io), 60 PD13 (io), 61 PD14 (io), 62 PD15 (io), 63 PC6 (io), 64 PC7 (io), 65 PC8 (io), 66 PC9 (io), 67 PA8 (io), 68 PA9 (io), 69 PA10 (io), 70 PA11 (io), 71 PA12 (io), 72 PA13 (io), 73 PF6 (io), 74 VSS (power), 75 VDDIO2 (power), 76 PA14 (io), 77 PA15 (io), 78 PC10 (io), 79 PC11 (io), 80 PC12 (io), 81 PD0 (io), 82 PD1 (io), 83 PD2 (io), 84 PD3 (io), 85 PD4 (io), 86 PD5 (io), 87 PD6 (io), 88 PD7 (io), 89 PB3 (io), 90 PB4 (io), 91 PB5 (io), 92 PB6 (io), 93 PB7 (io), 94 BOOT0 (in), 95 PB8 (io), 96 PB9 (io), 97 PE0 (io), 98 PE1 (io), 99 VSS (power), 100 VDD (power)

## STM32F072VBHx
designator *  value STM32F072VBHx
ki_keywords: ARM Cortex-M0 STM32F0 STM32F0x2; ki_description: ARM Cortex-M0 MCU, 128KB flash, 16KB RAM, 48MHz, 2-3.6V, 87 GPIO, UFBGA-100; ki_fp_filters: UFBGA*7x7mm*Layout12x12*P0.5mm*; Footprint: Package_BGA:UFBGA-100_7x7mm_Layout12x12_P0.5mm; Supplier: http://www.st.com/st-web-ui/static/active/en/resource/technical/document/datasheet/DM00090510.pdf
footprint UFBGA-100_7x7mm_Layout12x12_P0.5mm
pins: A1 PE3 (io), A2 PE1 (io), A3 PB8 (io), A4 BOOT0 (in), A5 PD7 (io), A6 PD5 (io), A7 PB4 (io), A8 PB3 (io), A9 PA15 (io), A10 PA14 (io), A11 PA13 (io), A12 PA12 (io), B1 PE4 (io), B2 PE2 (io), B3 PB9 (io), B4 PB7 (io), B5 PB6 (io), B6 PD6 (io), B7 PD4 (io), B8 PD3 (io), B9 PD1 (io), B10 PC12 (io), B11 PC10 (io), B12 PA11 (io), C1 PC13 (io), C2 PE5 (io), C3 PE0 (io), C4 VDD (power), C5 PB5 (io), C8 PD2 (io), C9 PD0 (io), C10 PC11 (io), C11 PF6 (io), C12 PA10 (io), D1 PC14 (io), D2 PE6 (io), D3 VSS (power), D10 PA9 (io), D11 PA8 (io), D12 PC9 (io), E1 PC15 (io), E2 VBAT (power), E3 NC (in) hidden, E10 PC8 (io), E11 PC7 (io), E12 PC6 (io), F1 PF0 (in), F2 PF9 (io), F11 VSS (power), F12 VSS (power), G1 PF1 (in), G2 PF10 (io), G11 VDDIO2 (power), G12 VDD (power), H1 PC0 (io), H2 NRST (in), H3 VDD (power), H10 PD15 (io), H11 PD14 (io), H12 PD13 (io), J1 PF2 (io), J2 PC1 (io), J3 PC2 (io), J10 PD12 (io), J11 PD11 (io), J12 PD10 (io), K1 VSSA (power), K2 PC3 (io), K3 PA2 (io), K4 PA5 (io), K5 PC4 (io), K8 PD9 (io), K9 PD8 (io), K10 PB15 (io), K11 PB14 (io), K12 PB13 (io), L1 PF3 (io), L2 PA0 (io), L3 PA3 (io), L4 PA6 (io), L5 PC5 (io), L6 PB2 (io), L7 PE8 (io), L8 PE10 (io), L9 PE12 (io), L10 PB10 (io), L11 PB11 (io), L12 PB12 (io), M1 VDDA (power), M2 PA1 (io), M3 PA4 (io), M4 PA7 (io), M5 PB0 (io), M6 PB1 (io), M7 PE7 (io), M8 PE9 (io), M9 PE11 (io), M10 PE13 (io), M11 PE14 (io), M12 PE15 (io)

## STM32F072VBTx
designator *  value STM32F072VBTx
ki_keywords: ARM Cortex-M0 STM32F0 STM32F0x2; ki_description: ARM Cortex-M0 MCU, 128KB flash, 16KB RAM, 48MHz, 2-3.6V, 87 GPIO, LQFP-100; ki_fp_filters: LQFP*14x14mm*P0.5mm*; Footprint: Package_QFP:LQFP-100_14x14mm_P0.5mm; Supplier: http://www.st.com/st-web-ui/static/active/en/resource/technical/document/datasheet/DM00090510.pdf
footprint LQFP-100_14x14mm_P0.5mm
pins: 1 PE2 (io), 2 PE3 (io), 3 PE4 (io), 4 PE5 (io), 5 PE6 (io), 6 VBAT (power), 7 PC13 (io), 8 PC14 (io), 9 PC15 (io), 10 PF9 (io), 11 PF10 (io), 12 PF0 (in), 13 PF1 (in), 14 NRST (in), 15 PC0 (io), 16 PC1 (io), 17 PC2 (io), 18 PC3 (io), 19 PF2 (io), 20 VSSA (power), 21 VDDA (power), 22 PF3 (io), 23 PA0 (io), 24 PA1 (io), 25 PA2 (io), 26 PA3 (io), 27 VSS (power), 28 VDD (power), 29 PA4 (io), 30 PA5 (io), 31 PA6 (io), 32 PA7 (io), 33 PC4 (io), 34 PC5 (io), 35 PB0 (io), 36 PB1 (io), 37 PB2 (io), 38 PE7 (io), 39 PE8 (io), 40 PE9 (io), 41 PE10 (io), 42 PE11 (io), 43 PE12 (io), 44 PE13 (io), 45 PE14 (io), 46 PE15 (io), 47 PB10 (io), 48 PB11 (io), 49 VSS (power), 50 VDD (power), 51 PB12 (io), 52 PB13 (io), 53 PB14 (io), 54 PB15 (io), 55 PD8 (io), 56 PD9 (io), 57 PD10 (io), 58 PD11 (io), 59 PD12 (io), 60 PD13 (io), 61 PD14 (io), 62 PD15 (io), 63 PC6 (io), 64 PC7 (io), 65 PC8 (io), 66 PC9 (io), 67 PA8 (io), 68 PA9 (io), 69 PA10 (io), 70 PA11 (io), 71 PA12 (io), 72 PA13 (io), 73 PF6 (io), 74 VSS (power), 75 VDDIO2 (power), 76 PA14 (io), 77 PA15 (io), 78 PC10 (io), 79 PC11 (io), 80 PC12 (io), 81 PD0 (io), 82 PD1 (io), 83 PD2 (io), 84 PD3 (io), 85 PD4 (io), 86 PD5 (io), 87 PD6 (io), 88 PD7 (io), 89 PB3 (io), 90 PB4 (io), 91 PB5 (io), 92 PB6 (io), 93 PB7 (io), 94 BOOT0 (in), 95 PB8 (io), 96 PB9 (io), 97 PE0 (io), 98 PE1 (io), 99 VSS (power), 100 VDD (power)

## STM32F078CBTx
designator *  value STM32F078CBTx
ki_keywords: ARM Cortex-M0 STM32F0 STM32F0x8; ki_description: ARM Cortex-M0 MCU, 128KB flash, 16KB RAM, 48MHz, 1.65-1.95V, 36 GPIO, LQFP-48; ki_fp_filters: LQFP*7x7mm*P0.5mm*; Footprint: Package_QFP:LQFP-48_7x7mm_P0.5mm; Supplier: http://www.st.com/st-web-ui/static/active/en/resource/technical/document/datasheet/DM00109263.pdf
footprint LQFP-48_7x7mm_P0.5mm
pins: 1 VBAT (power), 2 PC13 (io), 3 PC14 (io), 4 PC15 (io), 5 PF0 (in), 6 PF1 (in), 7 NRST (in), 8 VSSA (power), 9 VDDA (power), 10 PA0 (io), 11 PA1 (io), 12 PA2 (io), 13 PA3 (io), 14 PA4 (io), 15 PA5 (io), 16 PA6 (io), 17 PA7 (io), 18 PB0 (io), 19 PB1 (io), 20 NPOR (power), 21 PB10 (io), 22 PB11 (io), 23 VSS (power), 24 VDD (power), 25 PB12 (io), 26 PB13 (io), 27 PB14 (io), 28 PB15 (io), 29 PA8 (io), 30 PA9 (io), 31 PA10 (io), 32 PA11 (io), 33 PA12 (io), 34 PA13 (io), 35 VSS (power), 36 VDDIO2 (power), 37 PA14 (io), 38 PA15 (io), 39 PB3 (io), 40 PB4 (io), 41 PB5 (io), 42 PB6 (io), 43 PB7 (io), 44 BOOT0 (in), 45 PB8 (io), 46 PB9 (io), 47 VSS (power), 48 VDD (power)

## STM32F078CBUx
designator *  value STM32F078CBUx
ki_keywords: ARM Cortex-M0 STM32F0 STM32F0x8; ki_description: ARM Cortex-M0 MCU, 128KB flash, 16KB RAM, 48MHz, 1.65-1.95V, 36 GPIO, UFQFPN-48; ki_fp_filters: QFN*1EP*7x7mm*P0.5mm*; Footprint: Package_DFN_QFN:QFN-48-1EP_7x7mm_P0.5mm_EP5.6x5.6mm; Supplier: http://www.st.com/st-web-ui/static/active/en/resource/technical/document/datasheet/DM00109263.pdf
footprint QFN-48-1EP_7x7mm_P0.5mm_EP5.6x5.6mm
pins: 1 VBAT (power), 2 PC13 (io), 3 PC14 (io), 4 PC15 (io), 5 PF0 (in), 6 PF1 (in), 7 NRST (in), 8 VSSA (power), 9 VDDA (power), 10 PA0 (io), 11 PA1 (io), 12 PA2 (io), 13 PA3 (io), 14 PA4 (io), 15 PA5 (io), 16 PA6 (io), 17 PA7 (io), 18 PB0 (io), 19 PB1 (io), 20 NPOR (power), 21 PB10 (io), 22 PB11 (io), 23 VSS (power), 24 VDD (power), 25 PB12 (io), 26 PB13 (io), 27 PB14 (io), 28 PB15 (io), 29 PA8 (io), 30 PA9 (io), 31 PA10 (io), 32 PA11 (io), 33 PA12 (io), 34 PA13 (io), 35 VSS (power), 36 VDDIO2 (power), 37 PA14 (io), 38 PA15 (io), 39 PB3 (io), 40 PB4 (io), 41 PB5 (io), 42 PB6 (io), 43 PB7 (io), 44 BOOT0 (in), 45 PB8 (io), 46 PB9 (io), 47 VSS (power), 48 VDD (power), 49 VSS (power)

## STM32F078CBYx
designator *  value STM32F078CBYx
ki_keywords: ARM Cortex-M0 STM32F0 STM32F0x8; ki_description: ARM Cortex-M0 MCU, 128KB flash, 16KB RAM, 48MHz, 1.65-1.95V, 36 GPIO, WLCSP-49; ki_fp_filters: ST_WLCSP*Die448*; Footprint: Package_CSP:ST_WLCSP-49_Die448; Supplier: http://www.st.com/st-web-ui/static/active/en/resource/technical/document/datasheet/DM00109263.pdf
footprint ST_WLCSP-49_Die448
pins: A1 PA14 (io), A2 PA15 (io), A3 PB3 (io), A4 PB4 (io), A5 BOOT0 (in), A6 VSS (power), A7 VDD (power), B1 VSS (power), B2 VDDIO2 (power), B3 PA13 (io), B4 PB5 (io), B5 PB8 (io), B6 NC (in) hidden, B7 VBAT (power), C1 PA11 (io), C2 PA10 (io), C3 PA12 (io), C4 PB6 (io), C5 PB9 (io), C6 PC15 (io), C7 PC14 (io), D1 PA8 (io), D2 PA9 (io), D3 VSS (power), D4 PB7 (io), D5 PC13 (io), D6 PF1 (in), D7 PF0 (in), E1 PB15 (io), E2 PB12 (io), E3 PB10 (io), E4 PA3 (io), E5 PA2 (io), E6 VSSA (power), E7 NRST (in), F1 PB14 (io), F2 VDD (power), F3 PA7 (io), F4 PA6 (io), F5 PA5 (io), F6 PA0 (io), F7 VDDA (power), G1 PB13 (io), G2 PB11 (io), G3 NPOR (power), G4 PB1 (io), G5 PB0 (io), G6 PA4 (io), G7 PA1 (io)

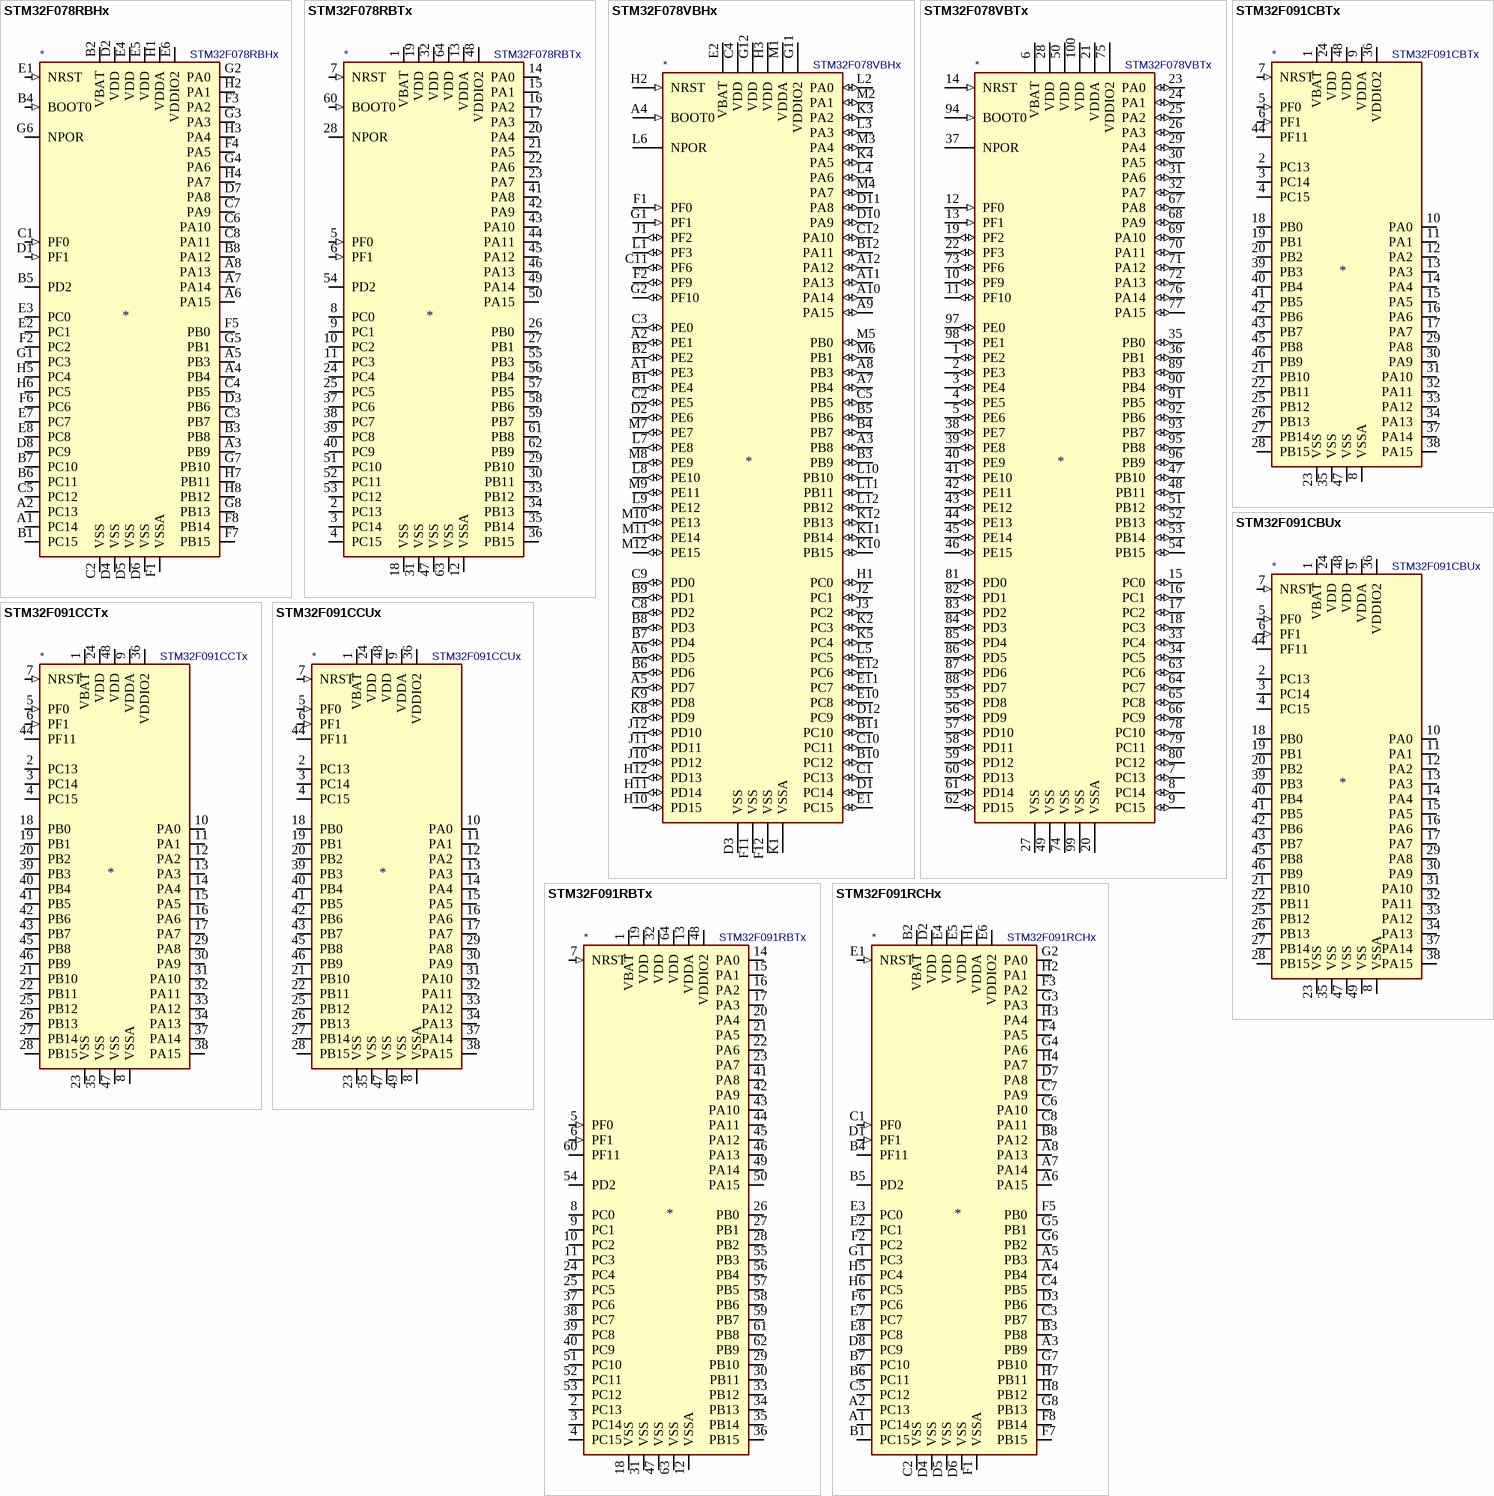
[diagram p7: symbols STM32F078RBHx to STM32F091RCHx]

## STM32F078RBHx
designator *  value STM32F078RBHx
ki_keywords: ARM Cortex-M0 STM32F0 STM32F0x8; ki_description: ARM Cortex-M0 MCU, 128KB flash, 16KB RAM, 48MHz, 1.65-1.95V, 50 GPIO, UFBGA-64; ki_fp_filters: UFBGA*5x5mm*Layout8x8*P0.5mm*; Footprint: Package_BGA:UFBGA-64_5x5mm_Layout8x8_P0.5mm; Supplier: http://www.st.com/st-web-ui/static/active/en/resource/technical/document/datasheet/DM00109263.pdf
footprint UFBGA-64_5x5mm_Layout8x8_P0.5mm
pins: A1 PC14 (io), A2 PC13 (io), A3 PB9 (io), A4 PB4 (io), A5 PB3 (io), A6 PA15 (io), A7 PA14 (io), A8 PA13 (io), B1 PC15 (io), B2 VBAT (power), B3 PB8 (io), B4 BOOT0 (in), B5 PD2 (io), B6 PC11 (io), B7 PC10 (io), B8 PA12 (io), C1 PF0 (in), C2 VSS (power), C3 PB7 (io), C4 PB5 (io), C5 PC12 (io), C6 PA10 (io), C7 PA9 (io), C8 PA11 (io), D1 PF1 (in), D2 VDD (power), D3 PB6 (io), D4 VSS (power), D5 VSS (power), D6 VSS (power), D7 PA8 (io), D8 PC9 (io), E1 NRST (in), E2 PC1 (io), E3 PC0 (io), E4 VDD (power), E5 VDD (power), E6 VDDIO2 (power), E7 PC7 (io), E8 PC8 (io), F1 VSSA (power), F2 PC2 (io), F3 PA2 (io), F4 PA5 (io), F5 PB0 (io), F6 PC6 (io), F7 PB15 (io), F8 PB14 (io), G1 PC3 (io), G2 PA0 (io), G3 PA3 (io), G4 PA6 (io), G5 PB1 (io), G6 NPOR (power), G7 PB10 (io), G8 PB13 (io), H1 VDDA (power), H2 PA1 (io), H3 PA4 (io), H4 PA7 (io), H5 PC4 (io), H6 PC5 (io), H7 PB11 (io), H8 PB12 (io)